# Altium schematic symbol library FPGA_Xilinx_Virtex6.SchLib: 28 symbols (part 9 of 15)
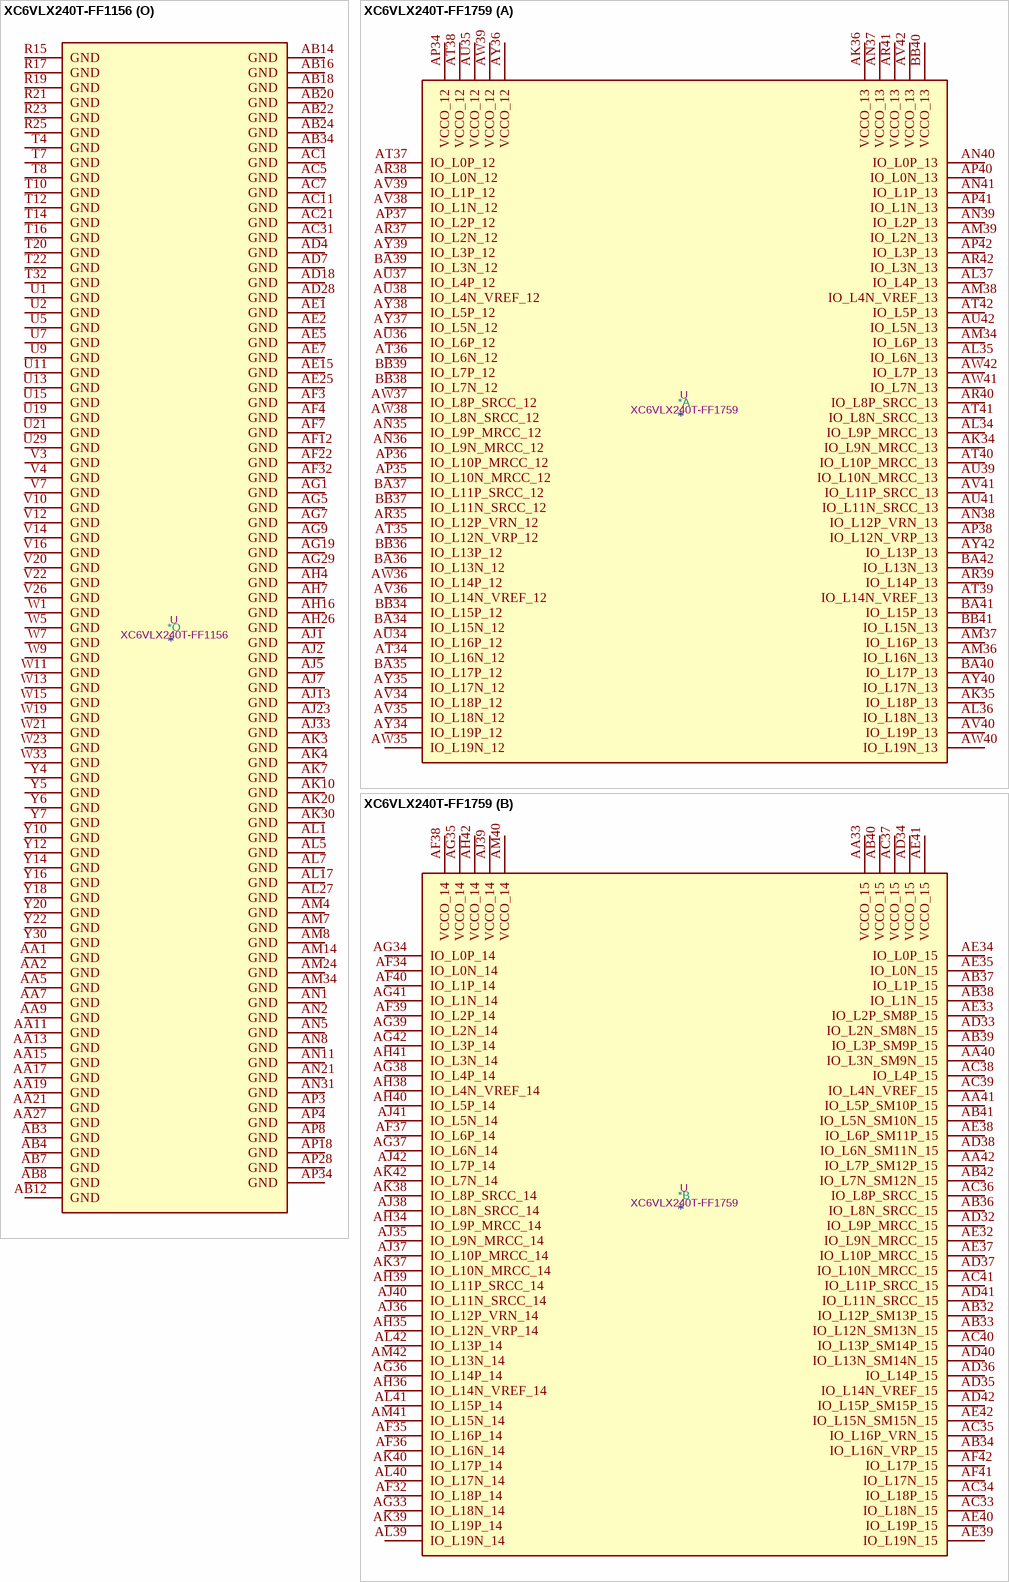
[diagram p109: symbols XC6VLX240T-FF1156 to XC6VLX240T-FF1759]

## XC6VLX240T-FF1156
designator *  value XC6VLX240T-FF1156  Reference: U
Virtex 6 LXT 240 XC6VLX240T-FF1156; ki_keywords: FPGA; Description_: Virtex 6 LXT 240 XC6VLX240T-FF1156
part A pins: AA25 IO_L6P_13, AA26 IO_L17P_13, AA28 IO_L7P_13, AA29 IO_L7N_13, AA30 IO_L1P_13, AA31 IO_L1N_13, AA32 VCCO_13, AA33 IO_L0N_13, AA34 IO_L0P_13, AB25 IO_L19P_13, AB26 IO_L17N_13, AB27 IO_L15P_13, AB28 IO_L13P_13, AB29 VCCO_13, AB30 IO_L3P_13, AB31 IO_L3N_13, AB32 IO_L12P_VRN_13, AB33 IO_L4N_VREF_13, AC25 IO_L19N_13, AC26 VCCO_13, AC27 IO_L15N_13, AC28 IO_L13N_13, AC29 IO_L11N_SRCC_13, AC30 IO_L9N_MRCC_13, AC32 IO_L12N_VRP_13, AC33 IO_L4P_13, AC34 IO_L2N_13, AD25 IO_L0P_12, AD26 IO_L0N_12, AD27 IO_L1N_12, AD29 IO_L11P_SRCC_13, AD30 IO_L9P_MRCC_13, AD31 IO_L5N_13, AD32 IO_L14P_13, AD33 VCCO_13, AD34 IO_L2P_13, AE26 IO_L11N_SRCC_12, AE27 IO_L1P_12, AE28 IO_L3P_12, AE29 IO_L3N_12, AE30 VCCO_13, AE31 IO_L5P_13, AE32 IO_L14N_VREF_13, AE33 IO_L10P_MRCC_13, AE34 IO_L8P_SRCC_13, AF26 IO_L11P_SRCC_12, AF27 VCCO_12, AF28 IO_L5P_12, AF29 IO_L5N_12, AF30 IO_L10P_MRCC_12, AF31 IO_L18N_13, AF33 IO_L10N_MRCC_13, AF34 IO_L8N_SRCC_13, AG27 IO_L9P_MRCC_12, AG28 IO_L9N_MRCC_12, AG30 IO_L10N_MRCC_12, AG31 IO_L18P_13, AG32 IO_L16N_13, AG33 IO_L16P_13, AG34 VCCO_12, AH29 IO_L7P_12, AH30 IO_L7N_12, AH31 VCCO_12, AH32 IO_L2N_12, AH33 IO_L2P_12, AH34 IO_L4N_VREF_12, AJ29 IO_L13P_12, AJ30 IO_L13N_12, AJ31 IO_L12P_VRN_12, AJ32 IO_L12N_VRP_12, AJ34 IO_L4P_12, AK31 IO_L15N_12, AK32 IO_L14N_VREF_12, AK33 IO_L14P_12, AK34 IO_L6N_12, AL30 IO_L19P_12, AL31 IO_L15P_12, AL32 VCCO_12, AL33 IO_L16N_12, AL34 IO_L6P_12, AM31 IO_L19N_12, AM32 IO_L17N_12, AM33 IO_L16P_12, AN32 IO_L17P_12, AN33 IO_L8P_SRCC_12, AN34 IO_L8N_SRCC_12, AP32 IO_L18P_12, AP33 IO_L18N_12, Y26 IO_L6N_13
part B pins: K31 IO_L2N_SM8N_15, K32 IO_L2P_SM8P_15, K34 IO_L16P_VRN_15, L28 IO_L7P_SM12P_15, L29 IO_L11P_SRCC_15, L30 IO_L11N_SRCC_15, L31 IO_L0N_15, L32 VCCO_15, L33 IO_L6P_SM11P_15, L34 IO_L16N_VRP_15, M25 IO_L1N_15, M26 IO_L3P_SM9P_15, M27 IO_L3N_SM9N_15, M28 IO_L7N_SM12N_15, M29 VCCO_15, M30 IO_L17P_15, M31 IO_L0P_15, M32 IO_L6N_SM11N_15, M33 IO_L10N_MRCC_15, N25 IO_L1P_15, N26 VCCO_15, N27 IO_L5P_SM10P_15, N28 IO_L9P_MRCC_15, N29 IO_L9N_MRCC_15, N30 IO_L17N_15, N32 IO_L8P_SRCC_15, N33 IO_L10P_MRCC_15, N34 IO_L18P_15, P25 IO_L12P_SM13P_15, P26 IO_L12N_SM13N_15, P27 IO_L5N_SM10N_15, P29 IO_L19P_15, P30 IO_L4N_VREF_15, P31 IO_L4P_15, P32 IO_L8N_SRCC_15, P33 VCCO_15, P34 IO_L18N_15, R26 IO_L15P_SM15P_15, R27 IO_L13N_SM14N_15, R28 IO_L13P_SM14P_15, R29 IO_L19N_15, R30 VCCO_15, R31 IO_L14P_15, R32 IO_L14N_VREF_15, R33 IO_L2P_14, R34 IO_L2N_14, T25 IO_L0N_14, T26 IO_L15N_SM15N_15, T27 VCCO_14, T28 IO_L1P_14, T29 IO_L1N_14, T30 IO_L3P_14, T31 IO_L3N_14, T33 IO_L4P_14, T34 IO_L4N_VREF_14, U25 IO_L0P_14, U26 IO_L5P_14, U27 IO_L5N_14, U28 IO_L7P_14, U30 IO_L8N_SRCC_14, U31 IO_L8P_SRCC_14, U32 IO_L6N_14, U33 IO_L6P_14, U34 VCCO_14, V25 IO_L18N_14, V27 IO_L11N_SRCC_14, V28 IO_L11P_SRCC_14, V29 IO_L7N_14, V30 IO_L9P_MRCC_14, V31 VCCO_14, V32 IO_L12P_VRN_14, V33 IO_L12N_VRP_14, V34 IO_L10P_MRCC_14, W25 IO_L18P_14, W26 IO_L19N_14, W27 IO_L19P_14, W28 VCCO_14, W29 IO_L15P_14, W30 IO_L9N_MRCC_14, W31 IO_L16P_14, W32 IO_L16N_14, W34 IO_L10N_MRCC_14, Y27 IO_L17N_14, Y28 IO_L17P_14, Y29 IO_L15N_14, Y31 IO_L13N_14, Y32 IO_L13P_14, Y33 IO_L14P_14, Y34 IO_L14N_VREF_14
part C pins: A32 VCCO_16, A33 IO_L4P_16, AC19 IO_L14P_22, AC20 IO_L6P_22, AD19 IO_L14N_VREF_22, AD20 IO_L6N_22, AD21 IO_L0N_22, AE19 IO_L8N_SRCC_22, AE20 VCCO_22, AE21 IO_L0P_22, AF19 IO_L8P_SRCC_22, AF20 IO_L11P_SRCC_22, AF21 IO_L11N_SRCC_22, AG20 IO_L18P_22, AG21 IO_L18N_22, AG22 IO_L2P_22, AH20 IO_L12N_VRP_22, AH21 VCCO_22, AH22 IO_L2N_22, AJ20 IO_L12P_VRN_22, AJ21 IO_L16N_22, AJ22 IO_L4N_VREF_22, AK19 IO_L10P_MRCC_22, AK21 IO_L16P_22, AK22 IO_L4P_22, AL18 IO_L1N_22, AL19 IO_L10N_MRCC_22, AL20 IO_L7N_22, AL21 IO_L13N_22, AL22 VCCO_22, AL23 IO_L15N_22, AM18 IO_L1P_22, AM19 VCCO_22, AM20 IO_L7P_22, AM21 IO_L13P_22, AM22 IO_L17P_22, AM23 IO_L15P_22, AN18 IO_L3N_22, AN19 IO_L5P_22, AN20 IO_L5N_22, AN22 IO_L17N_22, AN23 IO_L19N_22, AP19 IO_L3P_22, AP20 IO_L9P_MRCC_22, AP21 IO_L9N_MRCC_22, AP22 IO_L19P_22, AP23 VCCO_22, B32 IO_L0N_16, B33 IO_L4N_VREF_16, B34 IO_L6N_16, C32 IO_L0P_16, C33 IO_L6P_16, C34 IO_L8N_SRCC_16, D31 IO_L15P_16, D32 IO_L15N_16, D33 VCCO_16, D34 IO_L8P_SRCC_16, E31 IO_L11N_SRCC_16, E32 IO_L2P_16, E33 IO_L2N_16, E34 IO_L12P_VRN_16, F30 IO_L3P_16, F31 IO_L11P_SRCC_16, F33 IO_L10P_MRCC_16, F34 IO_L12N_VRP_16, G30 IO_L3N_16, G31 IO_L5P_16, G32 IO_L17P_16, G33 IO_L10N_MRCC_16, G34 VCCO_16, H30 IO_L5N_16, H31 VCCO_16, H32 IO_L17N_16, H33 IO_L14N_VREF_16, H34 IO_L14P_16, J26 IO_L1P_16, J27 IO_L1N_16, J28 VCCO_16, J29 IO_L7N_16, J30 IO_L13P_16, J31 IO_L19P_16, J32 IO_L19N_16, J34 IO_L16N_16, K25 VCCO_16, K26 IO_L9P_MRCC_16, K27 IO_L9N_MRCC_16, K28 IO_L7P_16, K29 IO_L13N_16, K33 IO_L16P_16, L25 IO_L18P_16, L26 IO_L18N_16
part D pins: AA23 IO_L16P_RS0_24, AA24 IO_L14N_VREF_FOE_B_MOSI_24, AB23 IO_L16N_CSO_B_24, AC22 IO_L19P_24, AC23 IO_L18P_24, AC24 IO_L18N_24, AD22 IO_L19N_24, AD23 VCCO_24, AD24 IO_L11P_SRCC_24, AE22 IO_L17N_VRP_24, AE23 IO_L17P_VRN_24, AE24 IO_L11N_SRCC_24, AF23 IO_L15P_FWE_B_24, AF24 IO_L13N_D0_FS0_24, AF25 IO_L13P_D1_FS1_24, AG23 IO_L15N_RS1_24, AG24 VCCO_24, AG25 IO_L2P_23, AG26 IO_L2N_23, AH23 IO_L11P_SRCC_23, AH24 IO_L11N_SRCC_23, AH25 IO_L8P_SRCC_23, AH27 IO_L0P_23, AH28 IO_L0N_23, AJ24 IO_L14P_23, AJ25 IO_L8N_SRCC_23, AJ26 IO_L12N_VRP_23, AJ27 IO_L10N_MRCC_23, AJ28 VCCO_23, AK23 IO_L18P_23, AK24 IO_L14N_VREF_23, AK25 VCCO_23, AK26 IO_L12P_VRN_23, AK27 IO_L10P_MRCC_23, AK28 IO_L6N_23, AK29 IO_L4N_VREF_23, AL24 IO_L18N_23, AL25 IO_L16N_23, AL26 IO_L13P_23, AL28 IO_L6P_23, AL29 IO_L4P_23, AM25 IO_L16P_23, AM26 IO_L13N_23, AM27 IO_L9N_MRCC_23, AM28 IO_L7N_23, AM29 VCCO_23, AM30 IO_L1N_23, AN24 IO_L17N_23, AN25 IO_L17P_23, AN26 VCCO_23, AN27 IO_L9P_MRCC_23, AN28 IO_L7P_23, AN29 IO_L5P_23, AN30 IO_L1P_23, AP24 IO_L19N_23, AP25 IO_L19P_23, AP26 IO_L15N_23, AP27 IO_L15P_23, AP29 IO_L5N_23, AP30 IO_L3P_23, AP31 IO_L3N_23, F23 IO_L3N_D12_24, F24 IO_L3P_D13_24, G23 IO_L5N_D8_24, G24 VCCO_24, H23 IO_L5P_D9_24, H24 IO_L7N_D4_24, H25 IO_L7P_D5_24, J24 IO_L9N_MRCC_24, J25 IO_L9P_MRCC_24, K23 IO_L1N_GC_24, K24 IO_L1P_GC_24, L22 VCCO_24, L23 IO_L0P_GC_24, L24 IO_L2N_D14_24, M22 IO_L0N_GC_24, M23 IO_L2P_D15_24, N23 IO_L4P_D11_24, N24 IO_L4N_VREF_D10_24, P24 IO_L6N_D6_24, R24 IO_L6P_D7_24, T23 IO_L8N_SRCC_24, T24 IO_L8P_SRCC_24, U23 IO_L10P_MRCC_24, U24 VCCO_24, V23 IO_L10N_MRCC_24, V24 IO_L12P_D3_24, W24 IO_L12N_D2_FS2_24, Y24 IO_L14P_FCS_B_24, Y25 VCCO_24
part E pins: A18 IO_L15P_26, A19 IO_L15N_26, A20 IO_L7P_26, A21 IO_L7N_26, A22 VCCO_26, A23 IO_L1P_26, A24 IO_L1N_26, A25 IO_L3N_25, A26 IO_L5N_25, A28 IO_L13P_25, A29 IO_L13N_25, A30 IO_L15P_25, A31 IO_L19N_GC_25, B18 IO_L17P_26, B19 VCCO_26, B20 IO_L9P_MRCC_26, B21 IO_L5P_26, B22 IO_L5N_26, B23 IO_L3P_26, B25 IO_L3P_25, B26 IO_L5P_25, B27 IO_L7P_25, B28 IO_L9N_MRCC_25, B29 VCCO_25, B30 IO_L15N_25, B31 IO_L19P_GC_25, C18 IO_L17N_26, C19 IO_L9N_MRCC_26, C20 IO_L0P_26, C22 IO_L19P_26, C23 IO_L3N_26, C24 IO_L1P_25, C25 IO_L1N_25, C26 VCCO_25, C27 IO_L7N_25, C28 IO_L9P_MRCC_25, C29 IO_L10P_MRCC_25, C30 IO_L17P_25, D19 IO_L13N_26, D20 IO_L0N_26, D21 IO_L12P_VRN_26, D22 IO_L19N_26, D23 VCCO_26, D24 IO_L8P_SRCC_25, D25 IO_L0P_25, D26 IO_L0N_25, D27 IO_L4P_25, D29 IO_L10N_MRCC_25, D30 IO_L17N_25, E19 IO_L13P_26, E20 VCCO_26, E21 IO_L12N_VRP_26, E22 IO_L6P_26, E23 IO_L6N_26, E24 IO_L8N_SRCC_25, E26 IO_L2P_25, E27 IO_L4N_VREF_25, E28 IO_L14N_VREF_25, E29 IO_L16P_VRN_25, E30 VCCO_25, F19 IO_L8P_SRCC_26, F20 IO_L8N_SRCC_26, F21 IO_L10P_MRCC_26, F25 IO_L11P_SRCC_25, F26 IO_L2N_25, F27 VCCO_25, F28 IO_L14P_25, F29 IO_L16N_VRP_25, G20 IO_L10N_MRCC_26, G21 IO_L2P_26, G22 IO_L2N_26, G25 IO_L11N_SRCC_25, G26 IO_L6P_25, G27 IO_L6N_25, G28 IO_L12N_25, H19 IO_L11P_SRCC_26, H20 IO_L11N_SRCC_26, H21 VCCO_26, H22 IO_L14P_26, H27 IO_L12P_25, H28 IO_L18P_GC_25, H29 IO_L18N_GC_25, J20 IO_L4P_26, J21 IO_L4N_VREF_26, J22 IO_L14N_VREF_26, K21 IO_L16P_26, K22 IO_L16N_26, L20 IO_L18P_26, L21 IO_L18N_26
part F pins: AC12 IO_L9N_MRCC_33, AC13 IO_L9P_MRCC_33, AC14 IO_L2N_33, AC15 IO_L9P_MRCC_32, AC16 VCCO_32, AC17 IO_L11N_SRCC_32, AC18 IO_L11P_SRCC_32, AD11 IO_L10N_MRCC_33, AD12 IO_L10P_MRCC_33, AD13 VCCO_33, AD14 IO_L2P_33, AD15 IO_L9N_MRCC_32, AD16 IO_L10N_MRCC_32, AD17 IO_L16P_32, AE11 IO_L4N_VREF_33, AE12 IO_L0N_33, AE13 IO_L0P_33, AE14 IO_L14P_33, AE16 IO_L10P_MRCC_32, AE17 IO_L16N_32, AE18 IO_L18P_32, AF11 IO_L4P_33, AF13 IO_L12P_VRN_33, AF14 IO_L14N_VREF_33, AF15 IO_L0N_32, AF16 IO_L4N_VREF_32, AF17 VCCO_32, AF18 IO_L18N_32, AG10 IO_L6N_33, AG11 IO_L6P_33, AG12 IO_L16P_33, AG13 IO_L12N_VRP_33, AG14 VCCO_33, AG15 IO_L0P_32, AG16 IO_L4P_32, AG17 IO_L8N_SRCC_32, AG18 IO_L12N_VRP_32, AH10 IO_L8N_SRCC_33, AH11 VCCO_33, AH12 IO_L16N_33, AH13 IO_L18P_33, AH14 IO_L18N_33, AH15 IO_L2N_32, AH17 IO_L8P_SRCC_32, AH18 IO_L12P_VRN_32, AH19 IO_L14N_VREF_32, AJ10 IO_L8P_SRCC_33, AJ11 IO_L1P_33, AJ12 IO_L3N_33, AJ14 IO_L1N_32, AJ15 IO_L2P_32, AJ16 IO_L6N_32, AJ17 IO_L6P_32, AJ18 VCCO_32, AJ19 IO_L14P_32, AK11 IO_L1N_33, AK12 IO_L3P_33, AK13 IO_L17P_33, AK14 IO_L1P_32, AK15 VCCO_32, AK16 IO_L19N_32, AK17 IO_L17N_32, AK18 IO_L17P_32, AL10 IO_L5N_33, AL11 IO_L7P_33, AL12 VCCO_33, AL13 IO_L17N_33, AL14 IO_L3N_32, AL15 IO_L3P_32, AL16 IO_L19P_32, AM10 IO_L5P_33, AM11 IO_L7N_33, AM12 IO_L13P_33, AM13 IO_L15N_33, AM15 IO_L5N_32, AM16 IO_L15N_32, AM17 IO_L15P_32, AN12 IO_L13N_33, AN13 IO_L15P_33, AN14 IO_L19N_33, AN15 IO_L5P_32, AN16 VCCO_32, AN17 IO_L13P_32, AP11 IO_L11P_SRCC_33, AP12 IO_L11N_SRCC_33, AP13 VCCO_33, AP14 IO_L19P_33, AP15 IO_L7N_32, AP16 IO_L7P_32, AP17 IO_L13N_32
part G pins: A8 IO_L5N_A08_D24_34, A9 IO_L5P_A09_D25_34, A10 IO_L1P_GC_34, A11 IO_L13P_SM6P_35, A12 VCCO_35, A13 IO_L3P_SM1P_35, A14 IO_L3N_SM1N_35, AB10 IO_L10N_MRCC_34, AC9 IO_L12N_A02_D18_34, AC10 IO_L10P_MRCC_34, AD9 IO_L14P_A25_34, AD10 IO_L12P_A03_D19_34, AE9 IO_L14N_VREF_A24_34, AE10 VCCO_34, AF9 IO_L16P_A21_34, AF10 IO_L16N_A20_34, AG8 IO_L18P_A17_34, AH8 IO_L18N_A16_34, AH9 IO_L11P_SRCC_34, AJ8 VCCO_34, AJ9 IO_L11N_SRCC_34, AK8 IO_L13P_A01_D17_34, AK9 IO_L15P_A23_34, AL8 IO_L13N_A00_D16_34, AL9 IO_L15N_A22_34, AM9 VCCO_34, AN9 IO_L17P_A19_34, AN10 IO_L19P_VRN_34, AP9 IO_L17N_A18_34, AP10 IO_L19N_VRP_34, B8 IO_L7P_A05_D21_34, B9 VCCO_34, B10 IO_L1N_GC_34, B11 IO_L13N_SM6N_35, B12 IO_L7P_SM4P_35, B13 IO_L7N_SM4N_35, C8 IO_L7N_A04_D20_34, C9 IO_L4P_A11_D27_34, C10 IO_L3P_A13_D29_34, C12 IO_L11N_SRCC_35, C13 IO_L11P_SRCC_35, C14 IO_L1N_35, D9 IO_L4N_VREF_A10_D26_34, D10 IO_L3N_A12_D28_34, D11 IO_L19P_GC_35, D12 IO_L17P_35, D13 VCCO_35, D14 IO_L1P_35, E8 IO_L6P_A07_D23_34, E9 IO_L6N_A06_D22_34, E10 VCCO_34, E11 IO_L19N_GC_35, E12 IO_L17N_35, E13 IO_L15P_SM7P_35, E14 IO_L5N_SM2N_35, F9 IO_L2P_A15_D31_34, F10 IO_L2N_A14_D30_34, F11 IO_L2N_SM0N_35, F13 IO_L15N_SM7N_35, F14 IO_L5P_SM2P_35, G10 IO_L6N_SM3N_35, G11 IO_L2P_SM0P_35, G12 IO_L4P_35, G13 IO_L0P_35, G14 VCCO_35, H9 IO_L0N_GC_34, H10 IO_L6P_SM3P_35, H11 VCCO_35, H12 IO_L12P_SM5P_35, H13 IO_L4N_VREF_35, H14 IO_L0N_35, J9 IO_L0P_GC_34, J10 IO_L14N_VREF_35, J11 IO_L14P_35, J12 IO_L12N_SM5N_35, J14 IO_L8N_SRCC_35, K9 IO_L8N_SRCC_34, K11 IO_L16P_VRN_35, K12 IO_L18N_GC_35, K13 IO_L18P_GC_35, K14 IO_L8P_SRCC_35, L9 IO_L8P_SRCC_34, L10 IO_L9P_MRCC_34, L11 IO_L16N_VRP_35, L12 VCCO_35, L13 IO_L9P_MRCC_35, M9 VCCO_34, M10 IO_L9N_MRCC_34, M11 IO_L10N_MRCC_35, M12 IO_L10P_MRCC_35, M13 IO_L9N_MRCC_35
part H pins: A15 IO_L15P_36, A16 IO_L11P_SRCC_36, B15 IO_L15N_36, B16 IO_L11N_SRCC_36, B17 IO_L5N_36, C15 IO_L19N_36, C16 VCCO_36, C17 IO_L5P_36, D15 IO_L19P_36, D16 IO_L13N_36, D17 IO_L1N_36, E16 IO_L13P_36, E17 IO_L0N_36, E18 IO_L1P_36, F15 IO_L16N_36, F16 IO_L12P_VRN_36, F17 VCCO_36, F18 IO_L0P_36, G15 IO_L16P_36, G16 IO_L12N_VRP_36, G17 IO_L3N_36, G18 IO_L8P_SRCC_36, H15 IO_L18P_36, H17 IO_L3P_36, H18 IO_L8N_SRCC_36, J15 IO_L18N_36, J16 IO_L14N_VREF_36, J17 IO_L14P_36, J18 VCCO_36, J19 IO_L6N_36, K15 VCCO_36, K16 IO_L9P_MRCC_36, K17 IO_L2N_36, K18 IO_L2P_36, K19 IO_L6P_36, L14 IO_L10N_MRCC_36, L15 IO_L10P_MRCC_36, L16 IO_L9N_MRCC_36, L18 IO_L4N_VREF_36, L19 IO_L4P_36, M15 IO_L17N_36, M16 IO_L17P_36, M17 IO_L7N_36, M18 IO_L7P_36
part I pins: AB1 MGTTXP3_113, AB2 MGTTXN3_113, AB5 MGTREFCLK1N_113, AB6 MGTREFCLK1P_113, AC3 MGTRXP3_113, AC4 MGTRXN3_113, AD1 MGTTXP2_113, AD2 MGTTXN2_113, AD5 MGTREFCLK0N_113, AD6 MGTREFCLK0P_113, AE3 MGTRXP2_113, AE4 MGTRXN2_113, AF1 MGTTXP1_113, AF2 MGTTXN1_113, AF5 MGTRXP1_113, AF6 MGTRXN1_113, AG3 MGTRXP0_113, AG4 MGTRXN0_113, AH1 MGTTXP0_113, AH2 MGTTXN0_113, AH5 MGTREFCLK1N_112, AH6 MGTREFCLK1P_112, AJ3 MGTRXP3_112, AJ4 MGTRXN3_112, AK1 MGTTXP3_112, AK2 MGTTXN3_112, AK5 MGTREFCLK0N_112, AK6 MGTREFCLK0P_112, AL3 MGTRXP2_112, AL4 MGTRXN2_112, AM1 MGTTXP2_112, AM2 MGTTXN2_112, AM5 MGTRXP1_112, AM6 MGTRXN1_112, AN3 MGTTXP1_112, AN4 MGTTXN1_112, AP1 MGTTXP0_112, AP2 MGTTXN0_112, AP5 MGTRXP0_112, AP6 MGTRXN0_112
part J pins: AA3 MGTRXP0_114, AA4 MGTRXN0_114, F1 MGTTXP3_115, F2 MGTTXN3_115, H1 MGTTXP2_115, H2 MGTTXN2_115, J3 MGTRXP3_115, J4 MGTRXN3_115, K1 MGTTXP1_115, K2 MGTTXN1_115, K5 MGTRXP2_115, K6 MGTRXN2_115, L3 MGTRXP1_115, L4 MGTRXN1_115, M1 MGTTXP0_115, M2 MGTTXN0_115, M5 MGTREFCLK1N_115, M6 MGTREFCLK1P_115, N3 MGTRXP0_115, N4 MGTRXN0_115, P1 MGTTXP3_114, P2 MGTTXN3_114, P5 MGTREFCLK0N_115, P6 MGTREFCLK0P_115, R3 MGTRXP3_114, R4 MGTRXN3_114, T1 MGTTXP2_114, T2 MGTTXN2_114, T5 MGTREFCLK1N_114, T6 MGTREFCLK1P_114, U3 MGTRXP2_114, U4 MGTRXN2_114, V1 MGTTXP1_114, V2 MGTTXN1_114, V5 MGTREFCLK0N_114, V6 MGTREFCLK0P_114, W3 MGTRXP1_114, W4 MGTRXN1_114, Y1 MGTTXP0_114, Y2 MGTTXN0_114
part K pins: A3 MGTTXP3_116, A4 MGTTXN3_116, B1 MGTTXP2_116, B2 MGTTXN2_116, B5 MGTRXP3_116, B6 MGTRXN3_116, C3 MGTTXP1_116, C4 MGTTXN1_116, D1 MGTTXP0_116, D2 MGTTXN0_116, D5 MGTRXP2_116, D6 MGTRXN2_116, E3 MGTRXP1_116, E4 MGTRXN1_116, F5 MGTREFCLK1N_116, F6 MGTREFCLK1P_116, G3 MGTRXP0_116, G4 MGTRXN0_116, H5 MGTREFCLK0N_116, H6 MGTREFCLK0P_116
part L pins: AA6 MGTAVCC_S, AC2 MGTAVTT_S, AC6 MGTAVCC_S, AD3 MGTAVTT_S, AE6 MGTAVCC_S, AG2 MGTAVTT_S, AG6 MGTAVCC_S, AH3 MGTAVTT_S, AJ6 MGTAVCC_S, AL2 MGTAVTT_S, AL6 MGTAVCC_S, AM3 MGTAVTT_S, AN6 MGTAVCC_S, AN7 MGTRREF_115, AP7 MGTAVTTRCAL_115, C2 MGTAVTT_N, C6 MGTAVCC_N, D3 MGTAVTT_N, E6 MGTAVCC_N, G2 MGTAVTT_N, G6 MGTAVCC_N, H3 MGTAVTT_N, J6 MGTAVCC_N, L2 MGTAVTT_N, L6 MGTAVCC_N, M3 MGTAVTT_N, N6 MGTAVCC_N, R2 MGTAVTT_S, R6 MGTAVCC_S, T3 MGTAVTT_S, U6 MGTAVCC_S, W2 MGTAVTT_S, W6 MGTAVCC_S, Y3 MGTAVTT_S
part M pins: AA8 DOUT_BUSY_0, AB9 VCCO_0, AC8 TDO_0, AD8 TDI_0, AE8 TCK_0, AF8 TMS_0, F8 CSI_B_0, G8 RDWR_B_0, H8 DIN_0, K8 CCLK_0, L8 PROGRAM_B_0, M8 HSWAPEN_0, P8 INIT_B_0, R8 DONE_0, U8 M0_0, U17 VREFN_0, U18 VP_0, V8 M2_0, V17 VN_0, V18 VREFP_0, W8 M1_0, W17 DXN_0, W18 DXP_0, Y9 VCCO_0
part N pins: A1 GND, A2 GND, A5 GND, A6 GND, A7 GND, A17 GND, A27 GND, A34 GND, AA10 VCCAUX, AA12 VCCINT, AA14 VCCINT, AA16 VCCINT, AA18 VCCINT, AA20 VCCINT, AA22 VCCAUX, AB11 VCCINT, AB13 VCCINT, AB15 VCCINT, AB17 VCCINT, AB19 VCCINT, AB21 VCCINT, B3 GND, B4 GND, B7 GND, B14 GND, B24 GND, C1 GND, C5 GND, C7 GND, C11 GND, C21 GND, C31 GND, D4 GND, D7 GND, D8 GND, D18 GND, D28 GND, E1 GND, E2 GND, E5 GND, E7 GND, E15 GND, E25 GND, F3 GND, F4 GND, F7 GND, F12 GND, F22 GND, F32 GND, G1 GND, G5 GND, G7 GND, G9 GND, G19 GND, G29 GND, H4 GND, H7 GND, H16 GND, H26 GND, J1 GND, J2 GND, J5 GND, J7 GND, J8 GND, J13 GND, J23 GND, J33 GND, K3 GND, K4 GND, K7 GND, K10 GND, K20 GND, K30 GND, L1 GND, L5 GND, L7 GND, L17 GND, L27 GND, M4 GND, M7 GND, M14 GND, M19 VCCINT, M20 GND, M21 VCCINT, M24 GND, M34 GND, N1 GND, N2 GND, N5 GND, N7 GND, N8 VBATT_0, N9 GND, N10 VCCAUX, N11 GND, N12 VCCINT, N13 GND, N14 VCCINT, N15 GND, N16 VCCINT, N17 GND, N18 VCCINT, N19 GND, N20 VCCINT, N21 GND, N22 VCCAUX, N31 GND, P3 GND, P4 GND, P7 GND, P9 VCCAUX, P10 GND, P11 VCCINT, P12 GND, P13 VCCINT, P14 GND, P15 VCCINT, P16 GND, P17 VCCINT, P18 GND, P19 VCCINT, P20 GND, P21 VCCINT, P22 GND, P23 VCCAUX, P28 GND, R1 GND, R5 GND, R7 GND, R9 GND, R10 VCCINT, R11 GND, R12 VCCINT, R13 GND, R14 VCCINT, R16 VCCINT, R18 VCCINT, R20 VCCINT, R22 VCCAUX, T9 VCCAUX, T11 VCCINT, T13 VCCINT, T15 VCCINT, T17 AVSS_0, T18 AVDD_0, T19 VCCINT, T21 VCCINT, U10 VCCINT, U12 VCCINT, U14 VCCINT, U16 VCCINT, U20 VCCINT, U22 VCCAUX, V9 VCCAUX, V11 VCCINT, V13 VCCINT, V15 VCCINT, V19 VCCINT, V21 VCCINT, W10 VCCAUX, W12 VCCINT, W14 VCCINT, W16 VCCINT, W20 VCCINT, W22 VCCAUX, Y8 VFS_0, Y11 VCCINT, Y13 VCCINT, Y15 VCCINT, Y17 VCCINT, Y19 VCCINT, Y21 VCCINT, Y23 VCCAUX
part O pins: AA1 GND, AA2 GND, AA5 GND, AA7 GND, AA9 GND, AA11 GND, AA13 GND, AA15 GND, AA17 GND, AA19 GND, AA21 GND, AA27 GND, AB3 GND, AB4 GND, AB7 GND, AB8 GND, AB12 GND, AB14 GND, AB16 GND, AB18 GND, AB20 GND, AB22 GND, AB24 GND, AB34 GND, AC1 GND, AC5 GND, AC7 GND, AC11 GND, AC21 GND, AC31 GND, AD4 GND, AD7 GND, AD18 GND, AD28 GND, AE1 GND, AE2 GND, AE5 GND, AE7 GND, AE15 GND, AE25 GND, AF3 GND, AF4 GND, AF7 GND, AF12 GND, AF22 GND, AF32 GND, AG1 GND, AG5 GND, AG7 GND, AG9 GND, AG19 GND, AG29 GND, AH4 GND, AH7 GND, AH16 GND, AH26 GND, AJ1 GND, AJ2 GND, AJ5 GND, AJ7 GND, AJ13 GND, AJ23 GND, AJ33 GND, AK3 GND, AK4 GND, AK7 GND, AK10 GND, AK20 GND, AK30 GND, AL1 GND, AL5 GND, AL7 GND, AL17 GND, AL27 GND, AM4 GND, AM7 GND, AM8 GND, AM14 GND, AM24 GND, AM34 GND, AN1 GND, AN2 GND, AN5 GND, AN8 GND, AN11 GND, AN21 GND, AN31 GND, AP3 GND, AP4 GND, AP8 GND, AP18 GND, AP28 GND, AP34 GND, R15 GND, R17 GND, R19 GND, R21 GND, R23 GND, R25 GND, T4 GND, T7 GND, T8 GND, T10 GND, T12 GND, T14 GND, T16 GND, T20 GND, T22 GND, T32 GND, U1 GND, U2 GND, U5 GND, U7 GND, U9 GND, U11 GND, U13 GND, U15 GND, U19 GND, U21 GND, U29 GND, V3 GND, V4 GND, V7 GND, V10 GND, V12 GND, V14 GND, V16 GND, V20 GND, V22 GND, V26 GND, W1 GND, W5 GND, W7 GND, W9 GND, W11 GND, W13 GND, W15 GND, W19 GND, W21 GND, W23 GND, W33 GND, Y4 GND, Y5 GND, Y6 GND, Y7 GND, Y10 GND, Y12 GND, Y14 GND, Y16 GND, Y18 GND, Y20 GND, Y22 GND, Y30 GND

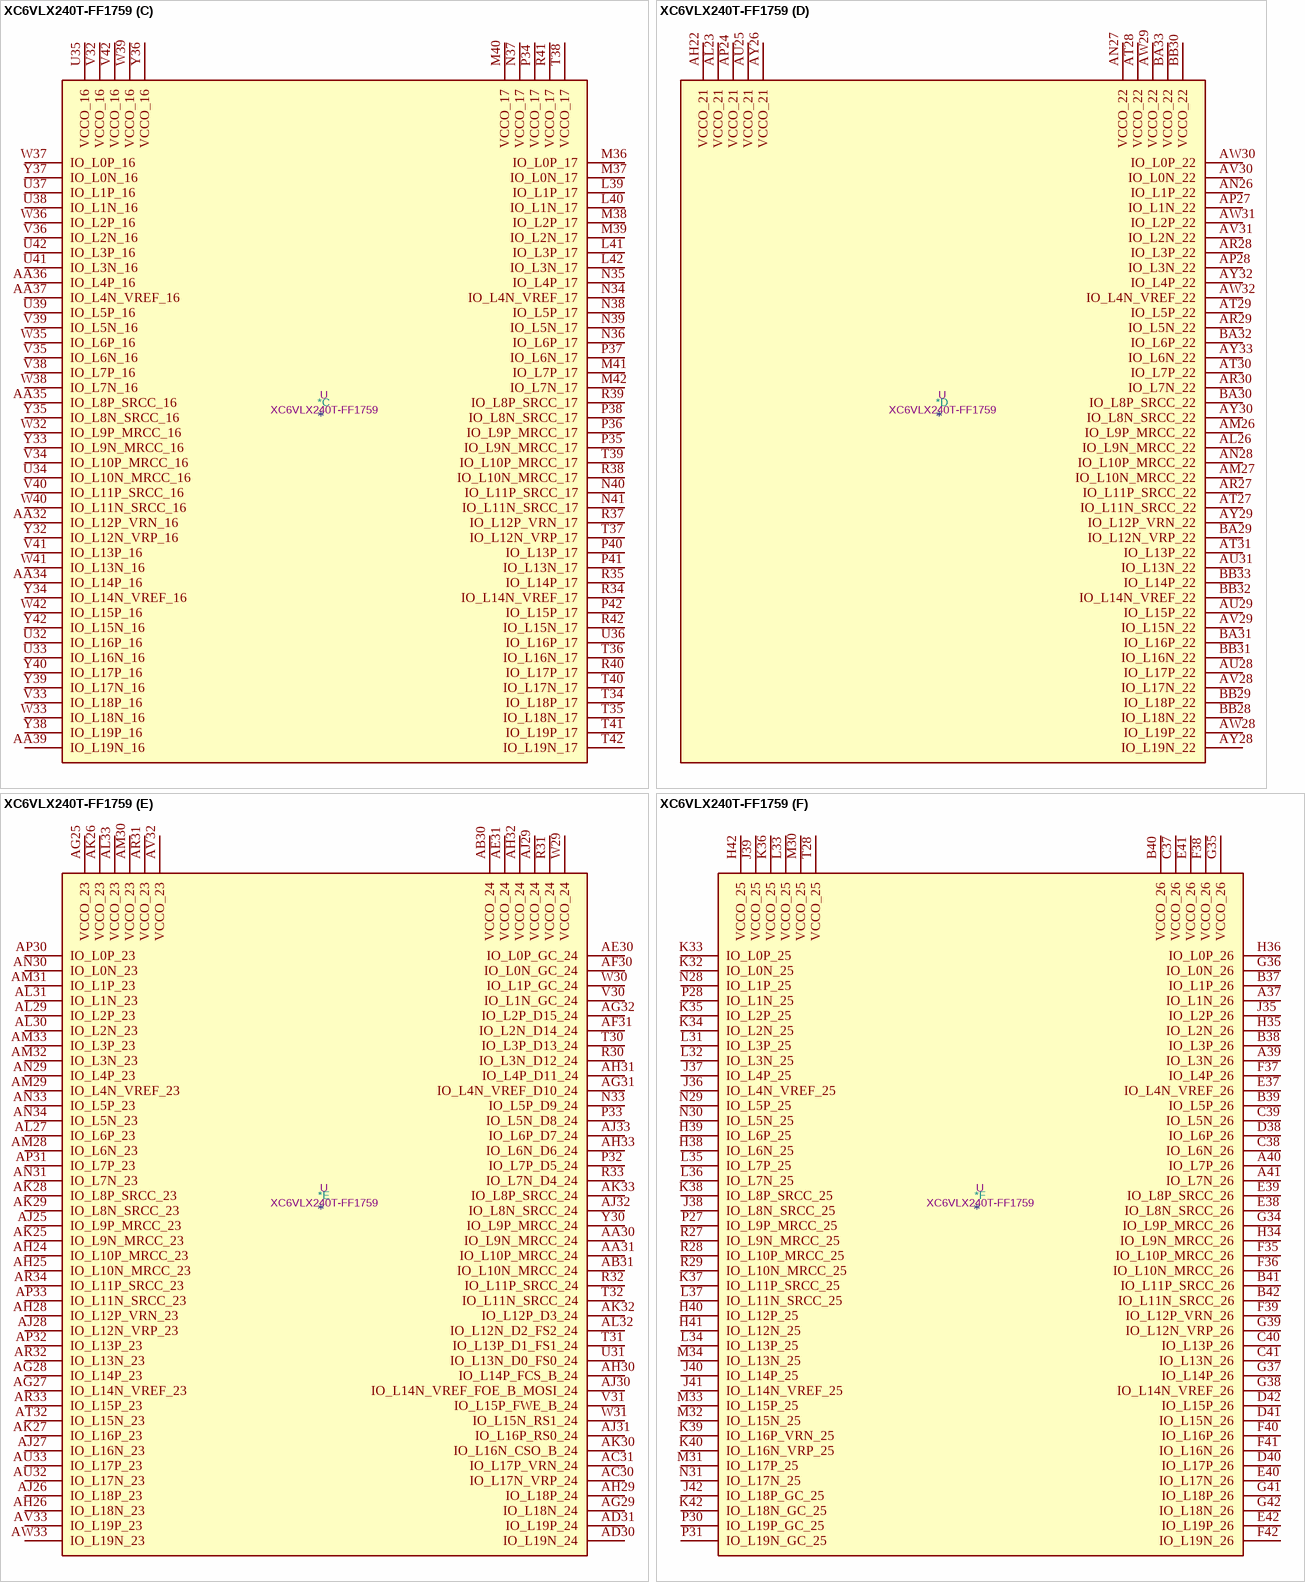
[diagram p60: symbol XC6VLX240T-FF1759]

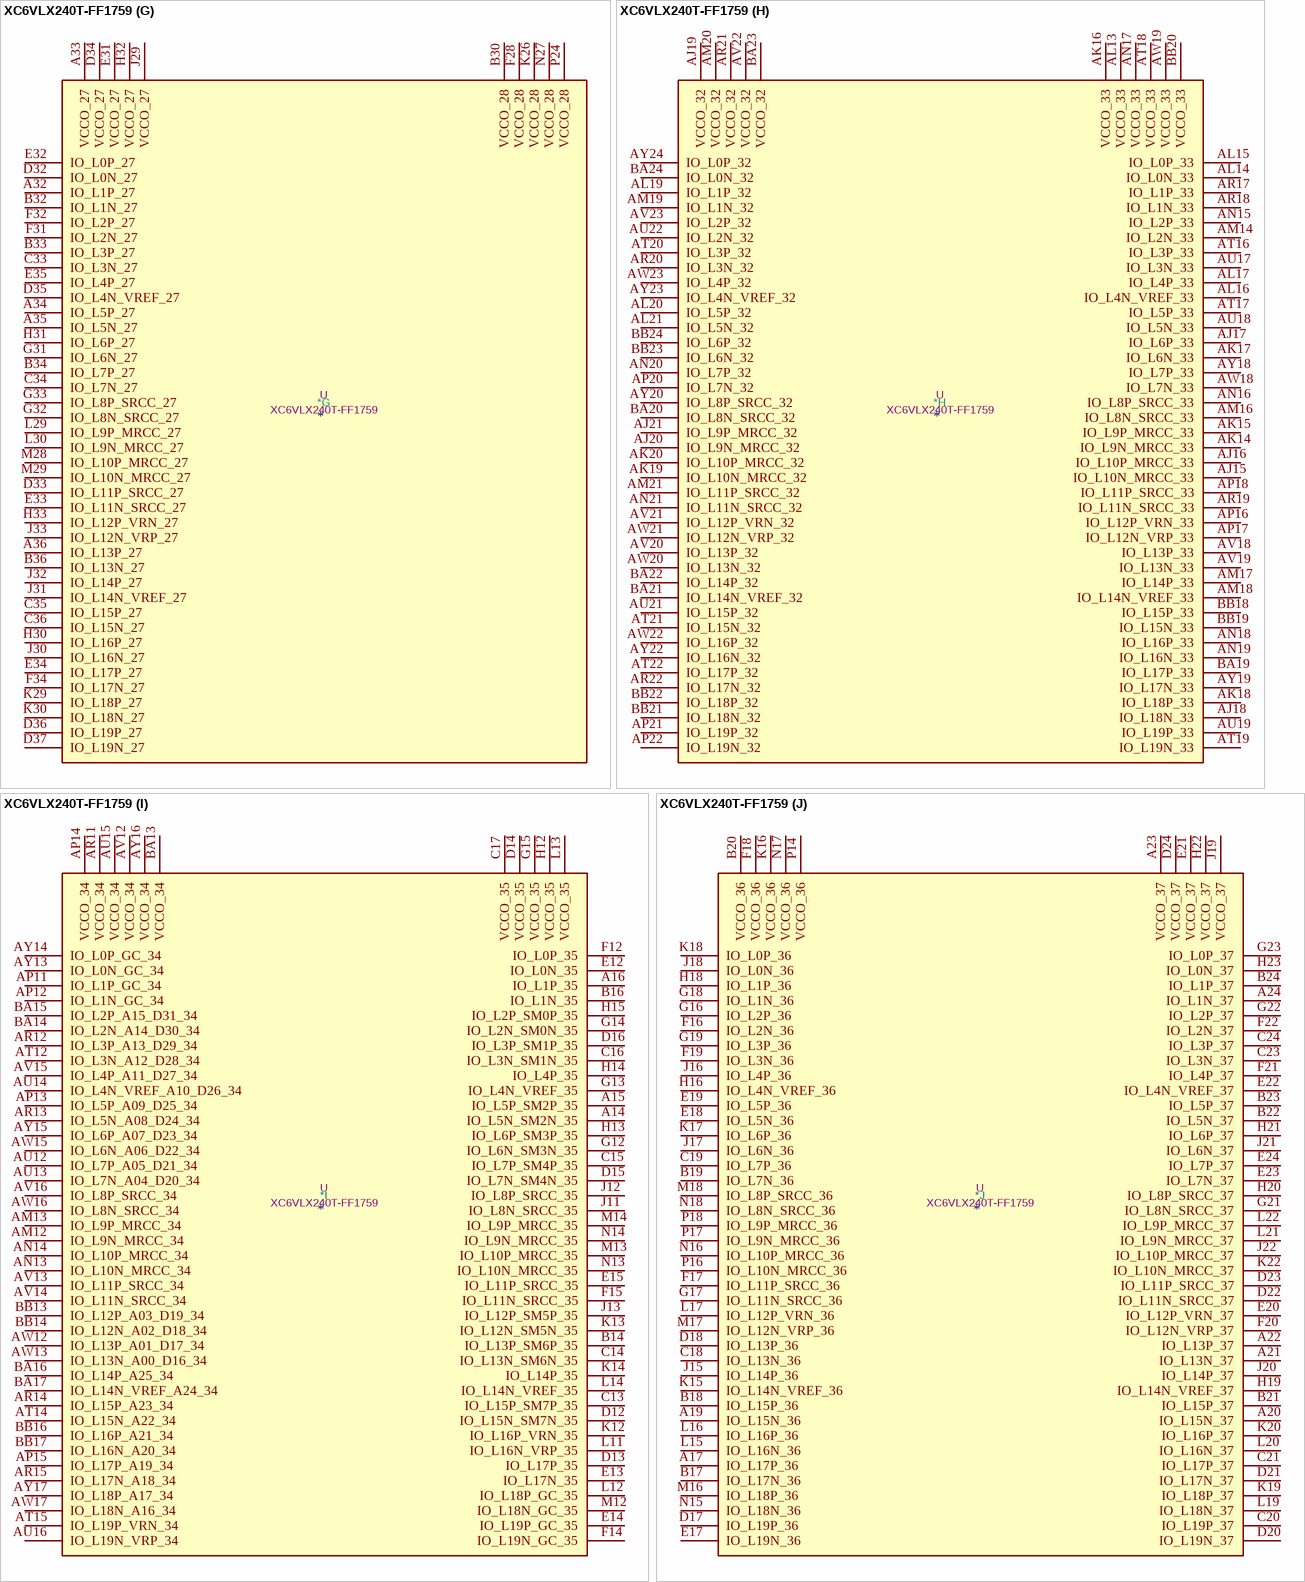
[diagram p61: symbol XC6VLX240T-FF1759]

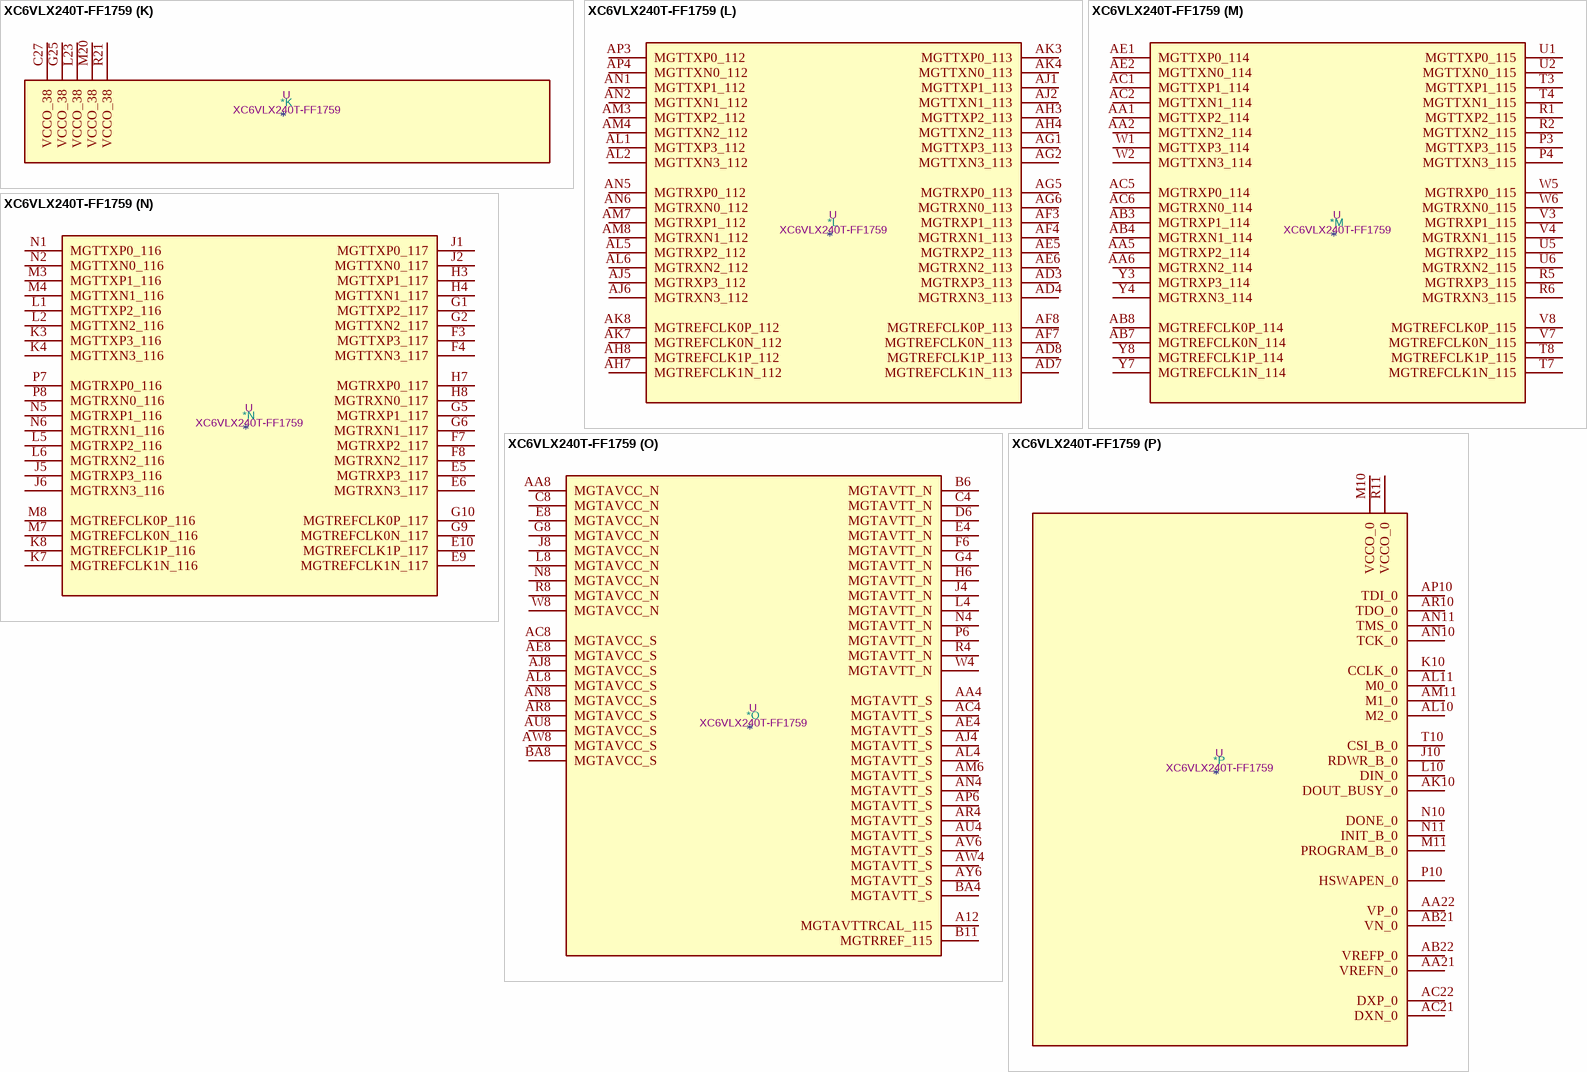
[diagram p62: symbol XC6VLX240T-FF1759]

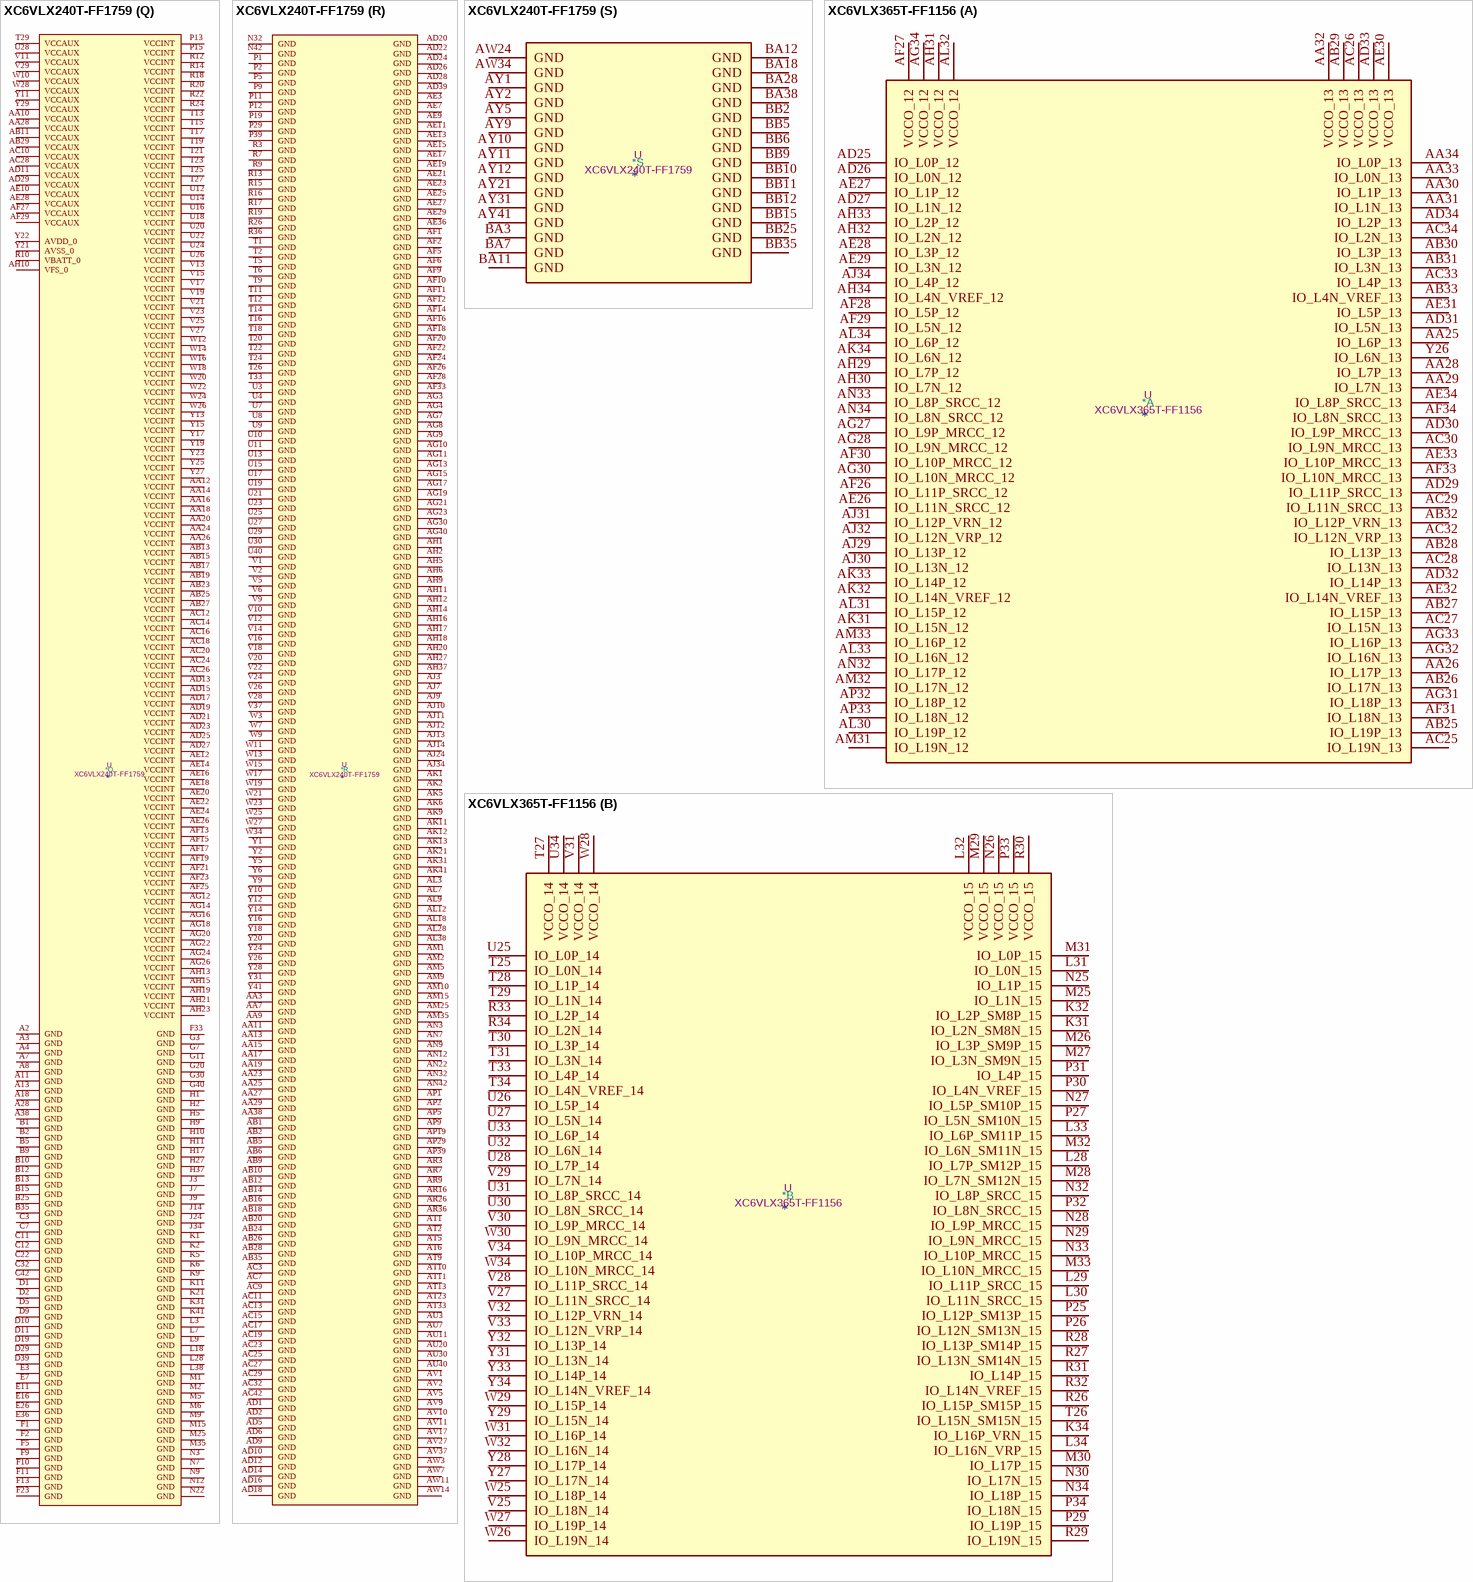
[diagram p63: symbols XC6VLX240T-FF1759 to XC6VLX365T-FF1156]

## XC6VLX240T-FF1759
designator *  value XC6VLX240T-FF1759  Reference: U
Virtex 6 LXT 240 XC6VLX240T-FF1759; ki_keywords: FPGA; Description_: Virtex 6 LXT 240 XC6VLX240T-FF1759
part A pins: AK34 IO_L9N_MRCC_13, AK35 IO_L18P_13, AK36 VCCO_13, AL34 IO_L9P_MRCC_13, AL35 IO_L6N_13, AL36 IO_L18N_13, AL37 IO_L4P_13, AM34 IO_L6P_13, AM36 IO_L16N_13, AM37 IO_L16P_13, AM38 IO_L4N_VREF_13, AM39 IO_L2N_13, AN35 IO_L9P_MRCC_12, AN36 IO_L9N_MRCC_12, AN37 VCCO_13, AN38 IO_L12P_VRN_13, AN39 IO_L2P_13, AN40 IO_L0P_13, AN41 IO_L1P_13, AP34 VCCO_12, AP35 IO_L10N_MRCC_12, AP36 IO_L10P_MRCC_12, AP37 IO_L2P_12, AP38 IO_L12N_VRP_13, AP40 IO_L0N_13, AP41 IO_L1N_13, AP42 IO_L3P_13, AR35 IO_L12P_VRN_12, AR37 IO_L2N_12, AR38 IO_L0N_12, AR39 IO_L14P_13, AR40 IO_L8P_SRCC_13, AR41 VCCO_13, AR42 IO_L3N_13, AT34 IO_L16N_12, AT35 IO_L12N_VRP_12, AT36 IO_L6N_12, AT37 IO_L0P_12, AT38 VCCO_12, AT39 IO_L14N_VREF_13, AT40 IO_L10P_MRCC_13, AT41 IO_L8N_SRCC_13, AT42 IO_L5P_13, AU34 IO_L16P_12, AU35 VCCO_12, AU36 IO_L6P_12, AU37 IO_L4P_12, AU38 IO_L4N_VREF_12, AU39 IO_L10N_MRCC_13, AU41 IO_L11N_SRCC_13, AU42 IO_L5N_13, AV34 IO_L18P_12, AV35 IO_L18N_12, AV36 IO_L14N_VREF_12, AV38 IO_L1N_12, AV39 IO_L1P_12, AV40 IO_L19P_13, AV41 IO_L11P_SRCC_13, AV42 VCCO_13, AW35 IO_L19N_12, AW36 IO_L14P_12, AW37 IO_L8P_SRCC_12, AW38 IO_L8N_SRCC_12, AW39 VCCO_12, AW40 IO_L19N_13, AW41 IO_L7N_13, AW42 IO_L7P_13, AY34 IO_L19P_12, AY35 IO_L17N_12, AY36 VCCO_12, AY37 IO_L5N_12, AY38 IO_L5P_12, AY39 IO_L3P_12, AY40 IO_L17N_13, AY42 IO_L13P_13, BA34 IO_L15N_12, BA35 IO_L17P_12, BA36 IO_L13N_12, BA37 IO_L11P_SRCC_12, BA39 IO_L3N_12, BA40 IO_L17P_13, BA41 IO_L15P_13, BA42 IO_L13N_13, BB34 IO_L15P_12, BB36 IO_L13P_12, BB37 IO_L11N_SRCC_12, BB38 IO_L7N_12, BB39 IO_L7P_12, BB40 VCCO_13, BB41 IO_L15N_13
part B pins: AA33 VCCO_15, AA40 IO_L3N_SM9N_15, AA41 IO_L5P_SM10P_15, AA42 IO_L7P_SM12P_15, AB32 IO_L12P_SM13P_15, AB33 IO_L12N_SM13N_15, AB34 IO_L16N_VRP_15, AB36 IO_L8N_SRCC_15, AB37 IO_L1P_15, AB38 IO_L1N_15, AB39 IO_L3P_SM9P_15, AB40 VCCO_15, AB41 IO_L5N_SM10N_15, AB42 IO_L7N_SM12N_15, AC33 IO_L18N_15, AC34 IO_L18P_15, AC35 IO_L16P_VRN_15, AC36 IO_L8P_SRCC_15, AC37 VCCO_15, AC38 IO_L4P_15, AC39 IO_L4N_VREF_15, AC40 IO_L13P_SM14P_15, AC41 IO_L11P_SRCC_15, AD32 IO_L9P_MRCC_15, AD33 IO_L2N_SM8N_15, AD34 VCCO_15, AD35 IO_L14N_VREF_15, AD36 IO_L14P_15, AD37 IO_L10N_MRCC_15, AD38 IO_L6N_SM11N_15, AD40 IO_L13N_SM14N_15, AD41 IO_L11N_SRCC_15, AD42 IO_L15P_SM15P_15, AE32 IO_L9N_MRCC_15, AE33 IO_L2P_SM8P_15, AE34 IO_L0P_15, AE35 IO_L0N_15, AE37 IO_L10P_MRCC_15, AE38 IO_L6P_SM11P_15, AE39 IO_L19N_15, AE40 IO_L19P_15, AE41 VCCO_15, AE42 IO_L15N_SM15N_15, AF32 IO_L18P_14, AF34 IO_L0N_14, AF35 IO_L16P_14, AF36 IO_L16N_14, AF37 IO_L6P_14, AF38 VCCO_14, AF39 IO_L2P_14, AF40 IO_L1P_14, AF41 IO_L17N_15, AF42 IO_L17P_15, AG33 IO_L18N_14, AG34 IO_L0P_14, AG35 VCCO_14, AG36 IO_L14P_14, AG37 IO_L6N_14, AG38 IO_L4P_14, AG39 IO_L2N_14, AG41 IO_L1N_14, AG42 IO_L3P_14, AH34 IO_L9P_MRCC_14, AH35 IO_L12N_VRP_14, AH36 IO_L14N_VREF_14, AH38 IO_L4N_VREF_14, AH39 IO_L11P_SRCC_14, AH40 IO_L5P_14, AH41 IO_L3N_14, AH42 VCCO_14, AJ35 IO_L9N_MRCC_14, AJ36 IO_L12P_VRN_14, AJ37 IO_L10P_MRCC_14, AJ38 IO_L8N_SRCC_14, AJ39 VCCO_14, AJ40 IO_L11N_SRCC_14, AJ41 IO_L5N_14, AJ42 IO_L7P_14, AK37 IO_L10N_MRCC_14, AK38 IO_L8P_SRCC_14, AK39 IO_L19P_14, AK40 IO_L17P_14, AK42 IO_L7N_14, AL39 IO_L19N_14, AL40 IO_L17N_14, AL41 IO_L15P_14, AL42 IO_L13P_14, AM40 VCCO_14, AM41 IO_L15N_14, AM42 IO_L13N_14
part C pins: AA32 IO_L12P_VRN_16, AA34 IO_L14P_16, AA35 IO_L8P_SRCC_16, AA36 IO_L4P_16, AA37 IO_L4N_VREF_16, AA39 IO_L19N_16, L39 IO_L1P_17, L40 IO_L1N_17, L41 IO_L3P_17, L42 IO_L3N_17, M36 IO_L0P_17, M37 IO_L0N_17, M38 IO_L2P_17, M39 IO_L2N_17, M40 VCCO_17, M41 IO_L7P_17, M42 IO_L7N_17, N34 IO_L4N_VREF_17, N35 IO_L4P_17, N36 IO_L6P_17, N37 VCCO_17, N38 IO_L5P_17, N39 IO_L5N_17, N40 IO_L11P_SRCC_17, N41 IO_L11N_SRCC_17, P34 VCCO_17, P35 IO_L9N_MRCC_17, P36 IO_L9P_MRCC_17, P37 IO_L6N_17, P38 IO_L8N_SRCC_17, P40 IO_L13P_17, P41 IO_L13N_17, P42 IO_L15P_17, R34 IO_L14N_VREF_17, R35 IO_L14P_17, R37 IO_L12P_VRN_17, R38 IO_L10N_MRCC_17, R39 IO_L8P_SRCC_17, R40 IO_L17P_17, R41 VCCO_17, R42 IO_L15N_17, T34 IO_L18P_17, T35 IO_L18N_17, T36 IO_L16N_17, T37 IO_L12N_VRP_17, T38 VCCO_17, T39 IO_L10P_MRCC_17, T40 IO_L17N_17, T41 IO_L19P_17, T42 IO_L19N_17, U32 IO_L16P_16, U33 IO_L16N_16, U34 IO_L10N_MRCC_16, U35 VCCO_16, U36 IO_L16P_17, U37 IO_L1P_16, U38 IO_L1N_16, U39 IO_L5P_16, U41 IO_L3N_16, U42 IO_L3P_16, V32 VCCO_16, V33 IO_L18P_16, V34 IO_L10P_MRCC_16, V35 IO_L6N_16, V36 IO_L2N_16, V38 IO_L7P_16, V39 IO_L5N_16, V40 IO_L11P_SRCC_16, V41 IO_L13P_16, V42 VCCO_16, W32 IO_L9P_MRCC_16, W33 IO_L18N_16, W35 IO_L6P_16, W36 IO_L2P_16, W37 IO_L0P_16, W38 IO_L7N_16, W39 VCCO_16, W40 IO_L11N_SRCC_16, W41 IO_L13N_16, W42 IO_L15P_16, Y32 IO_L12N_VRP_16, Y33 IO_L9N_MRCC_16, Y34 IO_L14N_VREF_16, Y35 IO_L8N_SRCC_16, Y36 VCCO_16, Y37 IO_L0N_16, Y38 IO_L19P_16, Y39 IO_L17N_16, Y40 IO_L17P_16, Y42 IO_L15N_16
part D pins: AH22 VCCO_21, AL23 VCCO_21, AL26 IO_L9N_MRCC_22, AM26 IO_L9P_MRCC_22, AM27 IO_L10N_MRCC_22, AN26 IO_L1P_22, AN27 VCCO_22, AN28 IO_L10P_MRCC_22, AP24 VCCO_21, AP27 IO_L1N_22, AP28 IO_L3N_22, AR27 IO_L11P_SRCC_22, AR28 IO_L3P_22, AR29 IO_L5N_22, AR30 IO_L7N_22, AT27 IO_L11N_SRCC_22, AT28 VCCO_22, AT29 IO_L5P_22, AT30 IO_L7P_22, AT31 IO_L13P_22, AU25 VCCO_21, AU28 IO_L17P_22, AU29 IO_L15P_22, AU31 IO_L13N_22, AV28 IO_L17N_22, AV29 IO_L15N_22, AV30 IO_L0N_22, AV31 IO_L2N_22, AW28 IO_L19P_22, AW29 VCCO_22, AW30 IO_L0P_22, AW31 IO_L2P_22, AW32 IO_L4N_VREF_22, AY26 VCCO_21, AY28 IO_L19N_22, AY29 IO_L12P_VRN_22, AY30 IO_L8N_SRCC_22, AY32 IO_L4P_22, AY33 IO_L6N_22, BA29 IO_L12N_VRP_22, BA30 IO_L8P_SRCC_22, BA31 IO_L16P_22, BA32 IO_L6P_22, BA33 VCCO_22, BB28 IO_L18N_22, BB29 IO_L18P_22, BB30 VCCO_22, BB31 IO_L16N_22, BB32 IO_L14N_VREF_22, BB33 IO_L14P_22
part E pins: AA30 IO_L9N_MRCC_24, AA31 IO_L10P_MRCC_24, AB30 VCCO_24, AB31 IO_L10N_MRCC_24, AC30 IO_L17N_VRP_24, AC31 IO_L17P_VRN_24, AD30 IO_L19N_24, AD31 IO_L19P_24, AE30 IO_L0P_GC_24, AE31 VCCO_24, AF30 IO_L0N_GC_24, AF31 IO_L2N_D14_24, AG25 VCCO_23, AG27 IO_L14N_VREF_23, AG28 IO_L14P_23, AG29 IO_L18N_24, AG31 IO_L4N_VREF_D10_24, AG32 IO_L2P_D15_24, AH24 IO_L10P_MRCC_23, AH25 IO_L10N_MRCC_23, AH26 IO_L18N_23, AH28 IO_L12P_VRN_23, AH29 IO_L18P_24, AH30 IO_L14P_FCS_B_24, AH31 IO_L4P_D11_24, AH32 VCCO_24, AH33 IO_L6N_D6_24, AJ25 IO_L9P_MRCC_23, AJ26 IO_L18P_23, AJ27 IO_L16N_23, AJ28 IO_L12N_VRP_23, AJ29 VCCO_24, AJ30 IO_L14N_VREF_FOE_B_MOSI_24, AJ31 IO_L16P_RS0_24, AJ32 IO_L8N_SRCC_24, AJ33 IO_L6P_D7_24, AK25 IO_L9N_MRCC_23, AK26 VCCO_23, AK27 IO_L16P_23, AK28 IO_L8P_SRCC_23, AK29 IO_L8N_SRCC_23, AK30 IO_L16N_CSO_B_24, AK32 IO_L12P_D3_24, AK33 IO_L8P_SRCC_24, AL27 IO_L6P_23, AL29 IO_L2P_23, AL30 IO_L2N_23, AL31 IO_L1N_23, AL32 IO_L12N_D2_FS2_24, AL33 VCCO_23, AM28 IO_L6N_23, AM29 IO_L4N_VREF_23, AM30 VCCO_23, AM31 IO_L1P_23, AM32 IO_L3N_23, AM33 IO_L3P_23, AN29 IO_L4P_23, AN30 IO_L0N_23, AN31 IO_L7N_23, AN33 IO_L5P_23, AN34 IO_L5N_23, AP30 IO_L0P_23, AP31 IO_L7P_23, AP32 IO_L13P_23, AP33 IO_L11N_SRCC_23, AR31 VCCO_23, AR32 IO_L13N_23, AR33 IO_L15P_23, AR34 IO_L11P_SRCC_23, AT32 IO_L15N_23, AU32 IO_L17N_23, AU33 IO_L17P_23, AV32 VCCO_23, AV33 IO_L19P_23, AW33 IO_L19N_23, N33 IO_L5P_D9_24, P32 IO_L7P_D5_24, P33 IO_L5N_D8_24, R30 IO_L3N_D12_24, R31 VCCO_24, R32 IO_L11P_SRCC_24, R33 IO_L7N_D4_24, T30 IO_L3P_D13_24, T31 IO_L13P_D1_FS1_24, T32 IO_L11N_SRCC_24, U31 IO_L13N_D0_FS0_24, V30 IO_L1N_GC_24, V31 IO_L15P_FWE_B_24, W29 VCCO_24, W30 IO_L1P_GC_24, W31 IO_L15N_RS1_24, Y30 IO_L9P_MRCC_24
part F pins: A37 IO_L1N_26, A39 IO_L3N_26, A40 IO_L7P_26, A41 IO_L7N_26, B37 IO_L1P_26, B38 IO_L3P_26, B39 IO_L5P_26, B40 VCCO_26, B41 IO_L11P_SRCC_26, B42 IO_L11N_SRCC_26, C37 VCCO_26, C38 IO_L6N_26, C39 IO_L5N_26, C40 IO_L13P_26, C41 IO_L13N_26, D38 IO_L6P_26, D40 IO_L17P_26, D41 IO_L15N_26, D42 IO_L15P_26, E37 IO_L4N_VREF_26, E38 IO_L8N_SRCC_26, E39 IO_L8P_SRCC_26, E40 IO_L17N_26, E41 VCCO_26, E42 IO_L19P_26, F35 IO_L10P_MRCC_26, F36 IO_L10N_MRCC_26, F37 IO_L4P_26, F38 VCCO_26, F39 IO_L12P_VRN_26, F40 IO_L16P_26, F41 IO_L16N_26, F42 IO_L19N_26, G34 IO_L9P_MRCC_26, G35 VCCO_26, G36 IO_L0N_26, G37 IO_L14P_26, G38 IO_L14N_VREF_26, G39 IO_L12N_VRP_26, G41 IO_L18P_26, G42 IO_L18N_26, H34 IO_L9N_MRCC_26, H35 IO_L2N_26, H36 IO_L0P_26, H38 IO_L6N_25, H39 IO_L6P_25, H40 IO_L12P_25, H41 IO_L12N_25, H42 VCCO_25, J35 IO_L2P_26, J36 IO_L4N_VREF_25, J37 IO_L4P_25, J38 IO_L8N_SRCC_25, J39 VCCO_25, J40 IO_L14P_25, J41 IO_L14N_VREF_25, J42 IO_L18P_GC_25, K32 IO_L0N_25, K33 IO_L0P_25, K34 IO_L2N_25, K35 IO_L2P_25, K36 VCCO_25, K37 IO_L11P_SRCC_25, K38 IO_L8P_SRCC_25, K39 IO_L16P_VRN_25, K40 IO_L16N_VRP_25, K42 IO_L18N_GC_25, L31 IO_L3P_25, L32 IO_L3N_25, L33 VCCO_25, L34 IO_L13P_25, L35 IO_L7P_25, L36 IO_L7N_25, L37 IO_L11N_SRCC_25, M30 VCCO_25, M31 IO_L17P_25, M32 IO_L15N_25, M33 IO_L15P_25, M34 IO_L13N_25, N28 IO_L1P_25, N29 IO_L5P_25, N30 IO_L5N_25, N31 IO_L17N_25, P27 IO_L9P_MRCC_25, P28 IO_L1N_25, P30 IO_L19P_GC_25, P31 IO_L19N_GC_25, R27 IO_L9N_MRCC_25, R28 IO_L10P_MRCC_25, R29 IO_L10N_MRCC_25, T28 VCCO_25
part G pins: A32 IO_L1P_27, A33 VCCO_27, A34 IO_L5P_27, A35 IO_L5N_27, A36 IO_L13P_27, B30 VCCO_28, B32 IO_L1N_27, B33 IO_L3P_27, B34 IO_L7P_27, B36 IO_L13N_27, C33 IO_L3N_27, C34 IO_L7N_27, C35 IO_L15P_27, C36 IO_L15N_27, D32 IO_L0N_27, D33 IO_L11P_SRCC_27, D34 VCCO_27, D35 IO_L4N_VREF_27, D36 IO_L19P_27, D37 IO_L19N_27, E31 VCCO_27, E32 IO_L0P_27, E33 IO_L11N_SRCC_27, E34 IO_L17P_27, E35 IO_L4P_27, F28 VCCO_28, F31 IO_L2N_27, F32 IO_L2P_27, F34 IO_L17N_27, G31 IO_L6N_27, G32 IO_L8N_SRCC_27, G33 IO_L8P_SRCC_27, H30 IO_L16P_27, H31 IO_L6P_27, H32 VCCO_27, H33 IO_L12P_VRN_27, J29 VCCO_27, J30 IO_L16N_27, J31 IO_L14N_VREF_27, J32 IO_L14P_27, J33 IO_L12N_VRP_27, K26 VCCO_28, K29 IO_L18P_27, K30 IO_L18N_27, L29 IO_L9P_MRCC_27, L30 IO_L9N_MRCC_27, M28 IO_L10P_MRCC_27, M29 IO_L10N_MRCC_27, N27 VCCO_28, P24 VCCO_28
part H pins: AJ15 IO_L10N_MRCC_33, AJ16 IO_L10P_MRCC_33, AJ17 IO_L6P_33, AJ18 IO_L18N_33, AJ19 VCCO_32, AJ20 IO_L9N_MRCC_32, AJ21 IO_L9P_MRCC_32, AK14 IO_L9N_MRCC_33, AK15 IO_L9P_MRCC_33, AK16 VCCO_33, AK17 IO_L6N_33, AK18 IO_L18P_33, AK19 IO_L10N_MRCC_32, AK20 IO_L10P_MRCC_32, AL13 VCCO_33, AL14 IO_L0N_33, AL15 IO_L0P_33, AL16 IO_L4N_VREF_33, AL17 IO_L4P_33, AL19 IO_L1P_32, AL20 IO_L5P_32, AL21 IO_L5N_32, AM14 IO_L2N_33, AM16 IO_L8N_SRCC_33, AM17 IO_L14P_33, AM18 IO_L14N_VREF_33, AM19 IO_L1N_32, AM20 VCCO_32, AM21 IO_L11P_SRCC_32, AN15 IO_L2P_33, AN16 IO_L8P_SRCC_33, AN17 VCCO_33, AN18 IO_L16P_33, AN19 IO_L16N_33, AN20 IO_L7P_32, AN21 IO_L11N_SRCC_32, AP16 IO_L12P_VRN_33, AP17 IO_L12N_VRP_33, AP18 IO_L11P_SRCC_33, AP20 IO_L7N_32, AP21 IO_L19P_32, AP22 IO_L19N_32, AR17 IO_L1P_33, AR18 IO_L1N_33, AR19 IO_L11N_SRCC_33, AR20 IO_L3N_32, AR21 VCCO_32, AR22 IO_L17N_32, AT16 IO_L3P_33, AT17 IO_L5P_33, AT18 VCCO_33, AT19 IO_L19N_33, AT20 IO_L3P_32, AT21 IO_L15N_32, AT22 IO_L17P_32, AU17 IO_L3N_33, AU18 IO_L5N_33, AU19 IO_L19P_33, AU21 IO_L15P_32, AU22 IO_L2N_32, AV18 IO_L13P_33, AV19 IO_L13N_33, AV20 IO_L13P_32, AV21 IO_L12P_VRN_32, AV22 VCCO_32, AV23 IO_L2P_32, AW18 IO_L7N_33, AW19 VCCO_33, AW20 IO_L13N_32, AW21 IO_L12N_VRP_32, AW22 IO_L16P_32, AW23 IO_L4P_32, AY18 IO_L7P_33, AY19 IO_L17N_33, AY20 IO_L8P_SRCC_32, AY22 IO_L16N_32, AY23 IO_L4N_VREF_32, AY24 IO_L0P_32, BA19 IO_L17P_33, BA20 IO_L8N_SRCC_32, BA21 IO_L14N_VREF_32, BA22 IO_L14P_32, BA23 VCCO_32, BA24 IO_L0N_32, BB18 IO_L15P_33, BB19 IO_L15N_33, BB20 VCCO_33, BB21 IO_L18N_32, BB22 IO_L18P_32, BB23 IO_L6N_32, BB24 IO_L6P_32
part I pins: A14 IO_L5N_SM2N_35, A15 IO_L5P_SM2P_35, A16 IO_L1P_35, AM12 IO_L9N_MRCC_34, AM13 IO_L9P_MRCC_34, AN13 IO_L10N_MRCC_34, AN14 IO_L10P_MRCC_34, AP11 IO_L1P_GC_34, AP12 IO_L1N_GC_34, AP13 IO_L5P_A09_D25_34, AP14 VCCO_34, AP15 IO_L17P_A19_34, AR11 VCCO_34, AR12 IO_L3P_A13_D29_34, AR13 IO_L5N_A08_D24_34, AR14 IO_L15P_A23_34, AR15 IO_L17N_A18_34, AT12 IO_L3N_A12_D28_34, AT14 IO_L15N_A22_34, AT15 IO_L19P_VRN_34, AU12 IO_L7P_A05_D21_34, AU13 IO_L7N_A04_D20_34, AU14 IO_L4N_VREF_A10_D26_34, AU15 VCCO_34, AU16 IO_L19N_VRP_34, AV12 VCCO_34, AV13 IO_L11P_SRCC_34, AV14 IO_L11N_SRCC_34, AV15 IO_L4P_A11_D27_34, AV16 IO_L8P_SRCC_34, AW12 IO_L13P_A01_D17_34, AW13 IO_L13N_A00_D16_34, AW15 IO_L6N_A06_D22_34, AW16 IO_L8N_SRCC_34, AW17 IO_L18N_A16_34, AY13 IO_L0N_GC_34, AY14 IO_L0P_GC_34, AY15 IO_L6P_A07_D23_34, AY16 VCCO_34, AY17 IO_L18P_A17_34, B14 IO_L13P_SM6P_35, B16 IO_L1N_35, BA13 VCCO_34, BA14 IO_L2N_A14_D30_34, BA15 IO_L2P_A15_D31_34, BA16 IO_L14P_A25_34, BA17 IO_L14N_VREF_A24_34, BB13 IO_L12P_A03_D19_34, BB14 IO_L12N_A02_D18_34, BB16 IO_L16P_A21_34, BB17 IO_L16N_A20_34, C13 IO_L15P_SM7P_35, C14 IO_L13N_SM6N_35, C15 IO_L7P_SM4P_35, C16 IO_L3N_SM1N_35, C17 VCCO_35, D12 IO_L15N_SM7N_35, D13 IO_L17P_35, D14 VCCO_35, D15 IO_L7N_SM4N_35, D16 IO_L3P_SM1P_35, E12 IO_L0N_35, E13 IO_L17N_35, E14 IO_L19P_GC_35, E15 IO_L11P_SRCC_35, F12 IO_L0P_35, F14 IO_L19N_GC_35, F15 IO_L11N_SRCC_35, G12 IO_L6N_SM3N_35, G13 IO_L4N_VREF_35, G14 IO_L2N_SM0N_35, G15 VCCO_35, H12 VCCO_35, H13 IO_L6P_SM3P_35, H14 IO_L4P_35, H15 IO_L2P_SM0P_35, J11 IO_L8N_SRCC_35, J12 IO_L8P_SRCC_35, J13 IO_L12P_SM5P_35, K12 IO_L16P_VRN_35, K13 IO_L12N_SM5N_35, K14 IO_L14P_35, L11 IO_L16N_VRP_35, L12 IO_L18P_GC_35, L13 VCCO_35, L14 IO_L14N_VREF_35, M12 IO_L18N_GC_35, M13 IO_L10P_MRCC_35, M14 IO_L9P_MRCC_35, N13 IO_L10N_MRCC_35, N14 IO_L9N_MRCC_35
part J pins: A17 IO_L17P_36, A19 IO_L15N_36, A20 IO_L15N_37, A21 IO_L13N_37, A22 IO_L13P_37, A23 VCCO_37, A24 IO_L1N_37, B17 IO_L17N_36, B18 IO_L15P_36, B19 IO_L7N_36, B20 VCCO_36, B21 IO_L15P_37, B22 IO_L5N_37, B23 IO_L5P_37, B24 IO_L1P_37, C18 IO_L13N_36, C19 IO_L7P_36, C20 IO_L19P_37, C21 IO_L17P_37, C23 IO_L3N_37, C24 IO_L3P_37, D17 IO_L19P_36, D18 IO_L13P_36, D20 IO_L19N_37, D21 IO_L17N_37, D22 IO_L11N_SRCC_37, D23 IO_L11P_SRCC_37, D24 VCCO_37, E17 IO_L19N_36, E18 IO_L5N_36, E19 IO_L5P_36, E20 IO_L12P_VRN_37, E21 VCCO_37, E22 IO_L4N_VREF_37, E23 IO_L7N_37, E24 IO_L7P_37, F16 IO_L2N_36, F17 IO_L11P_SRCC_36, F18 VCCO_36, F19 IO_L3N_36, F20 IO_L12N_VRP_37, F21 IO_L4P_37, F22 IO_L2N_37, G16 IO_L2P_36, G17 IO_L11N_SRCC_36, G18 IO_L1N_36, G19 IO_L3P_36, G21 IO_L8N_SRCC_37, G22 IO_L2P_37, G23 IO_L0P_37, H16 IO_L4N_VREF_36, H18 IO_L1P_36, H19 IO_L14N_VREF_37, H20 IO_L8P_SRCC_37, H21 IO_L6P_37, H22 VCCO_37, H23 IO_L0N_37, J15 IO_L14P_36, J16 IO_L4P_36, J17 IO_L6N_36, J18 IO_L0N_36, J19 VCCO_37, J20 IO_L14P_37, J21 IO_L6N_37, J22 IO_L10P_MRCC_37, K15 IO_L14N_VREF_36, K16 VCCO_36, K17 IO_L6P_36, K18 IO_L0P_36, K19 IO_L18P_37, K20 IO_L16P_37, K22 IO_L10N_MRCC_37, L15 IO_L16N_36, L16 IO_L16P_36, L17 IO_L12P_VRN_36, L19 IO_L18N_37, L20 IO_L16N_37, L21 IO_L9N_MRCC_37, L22 IO_L9P_MRCC_37, M16 IO_L18P_36, M17 IO_L12N_VRP_36, M18 IO_L8P_SRCC_36, N15 IO_L18N_36, N16 IO_L10P_MRCC_36, N17 VCCO_36, N18 IO_L8N_SRCC_36, P14 VCCO_36, P16 IO_L10N_MRCC_36, P17 IO_L9N_MRCC_36, P18 IO_L9P_MRCC_36
part K pins: C27 VCCO_38, G25 VCCO_38, L23 VCCO_38, M20 VCCO_38, R21 VCCO_38
part L pins: AD3 MGTRXP3_113, AD4 MGTRXN3_113, AD7 MGTREFCLK1N_113, AD8 MGTREFCLK1P_113, AE5 MGTRXP2_113, AE6 MGTRXN2_113, AF3 MGTRXP1_113, AF4 MGTRXN1_113, AF7 MGTREFCLK0N_113, AF8 MGTREFCLK0P_113, AG1 MGTTXP3_113, AG2 MGTTXN3_113, AG5 MGTRXP0_113, AG6 MGTRXN0_113, AH3 MGTTXP2_113, AH4 MGTTXN2_113, AH7 MGTREFCLK1N_112, AH8 MGTREFCLK1P_112, AJ1 MGTTXP1_113, AJ2 MGTTXN1_113, AJ5 MGTRXP3_112, AJ6 MGTRXN3_112, AK3 MGTTXP0_113, AK4 MGTTXN0_113, AK7 MGTREFCLK0N_112, AK8 MGTREFCLK0P_112, AL1 MGTTXP3_112, AL2 MGTTXN3_112, AL5 MGTRXP2_112, AL6 MGTRXN2_112, AM3 MGTTXP2_112, AM4 MGTTXN2_112, AM7 MGTRXP1_112, AM8 MGTRXN1_112, AN1 MGTTXP1_112, AN2 MGTTXN1_112, AN5 MGTRXP0_112, AN6 MGTRXN0_112, AP3 MGTTXP0_112, AP4 MGTTXN0_112
part M pins: AA1 MGTTXP2_114, AA2 MGTTXN2_114, AA5 MGTRXP2_114, AA6 MGTRXN2_114, AB3 MGTRXP1_114, AB4 MGTRXN1_114, AB7 MGTREFCLK0N_114, AB8 MGTREFCLK0P_114, AC1 MGTTXP1_114, AC2 MGTTXN1_114, AC5 MGTRXP0_114, AC6 MGTRXN0_114, AE1 MGTTXP0_114, AE2 MGTTXN0_114, P3 MGTTXP3_115, P4 MGTTXN3_115, R1 MGTTXP2_115, R2 MGTTXN2_115, R5 MGTRXP3_115, R6 MGTRXN3_115, T3 MGTTXP1_115, T4 MGTTXN1_115, T7 MGTREFCLK1N_115, T8 MGTREFCLK1P_115, U1 MGTTXP0_115, U2 MGTTXN0_115, U5 MGTRXP2_115, U6 MGTRXN2_115, V3 MGTRXP1_115, V4 MGTRXN1_115, V7 MGTREFCLK0N_115, V8 MGTREFCLK0P_115, W1 MGTTXP3_114, W2 MGTTXN3_114, W5 MGTRXP0_115, W6 MGTRXN0_115, Y3 MGTRXP3_114, Y4 MGTRXN3_114, Y7 MGTREFCLK1N_114, Y8 MGTREFCLK1P_114
part N pins: E5 MGTRXP3_117, E6 MGTRXN3_117, E9 MGTREFCLK1N_117, E10 MGTREFCLK1P_117, F3 MGTTXP3_117, F4 MGTTXN3_117, F7 MGTRXP2_117, F8 MGTRXN2_117, G1 MGTTXP2_117, G2 MGTTXN2_117, G5 MGTRXP1_117, G6 MGTRXN1_117, G9 MGTREFCLK0N_117, G10 MGTREFCLK0P_117, H3 MGTTXP1_117, H4 MGTTXN1_117, H7 MGTRXP0_117, H8 MGTRXN0_117, J1 MGTTXP0_117, J2 MGTTXN0_117, J5 MGTRXP3_116, J6 MGTRXN3_116, K3 MGTTXP3_116, K4 MGTTXN3_116, K7 MGTREFCLK1N_116, K8 MGTREFCLK1P_116, L1 MGTTXP2_116, L2 MGTTXN2_116, L5 MGTRXP2_116, L6 MGTRXN2_116, M3 MGTTXP1_116, M4 MGTTXN1_116, M7 MGTREFCLK0N_116, M8 MGTREFCLK0P_116, N1 MGTTXP0_116, N2 MGTTXN0_116, N5 MGTRXP1_116, N6 MGTRXN1_116, P7 MGTRXP0_116, P8 MGTRXN0_116
part O pins: A12 MGTAVTTRCAL_115, AA4 MGTAVTT_S, AA8 MGTAVCC_N, AC4 MGTAVTT_S, AC8 MGTAVCC_S, AE4 MGTAVTT_S, AE8 MGTAVCC_S, AJ4 MGTAVTT_S, AJ8 MGTAVCC_S, AL4 MGTAVTT_S, AL8 MGTAVCC_S, AM6 MGTAVTT_S, AN4 MGTAVTT_S, AN8 MGTAVCC_S, AP6 MGTAVTT_S, AR4 MGTAVTT_S, AR8 MGTAVCC_S, AU4 MGTAVTT_S, AU8 MGTAVCC_S, AV6 MGTAVTT_S, AW4 MGTAVTT_S, AW8 MGTAVCC_S, AY6 MGTAVTT_S, B6 MGTAVTT_N, B11 MGTRREF_115, BA4 MGTAVTT_S, BA8 MGTAVCC_S, C4 MGTAVTT_N, C8 MGTAVCC_N, D6 MGTAVTT_N, E4 MGTAVTT_N, E8 MGTAVCC_N, F6 MGTAVTT_N, G4 MGTAVTT_N, G8 MGTAVCC_N, H6 MGTAVTT_N, J4 MGTAVTT_N, J8 MGTAVCC_N, L4 MGTAVTT_N, L8 MGTAVCC_N, N4 MGTAVTT_N, N8 MGTAVCC_N, P6 MGTAVTT_N, R4 MGTAVTT_N, R8 MGTAVCC_N, W4 MGTAVTT_N, W8 MGTAVCC_N
part P pins: AA21 VREFN_0, AA22 VP_0, AB21 VN_0, AB22 VREFP_0, AC21 DXN_0, AC22 DXP_0, AK10 DOUT_BUSY_0, AL10 M2_0, AL11 M0_0, AM11 M1_0, AN10 TCK_0, AN11 TMS_0, AP10 TDI_0, AR10 TDO_0, J10 RDWR_B_0, K10 CCLK_0, L10 DIN_0, M10 VCCO_0, M11 PROGRAM_B_0, N10 DONE_0, N11 INIT_B_0, P10 HSWAPEN_0, R11 VCCO_0, T10 CSI_B_0
part Q pins: A2 GND, A3 GND, A4 GND, A7 GND, A8 GND, A11 GND, A13 GND, A18 GND, A28 GND, A38 GND, AA10 VCCAUX, AA12 VCCINT, AA14 VCCINT, AA16 VCCINT, AA18 VCCINT, AA20 VCCINT, AA24 VCCINT, AA26 VCCINT, AA28 VCCAUX, AB11 VCCAUX, AB13 VCCINT, AB15 VCCINT, AB17 VCCINT, AB19 VCCINT, AB23 VCCINT, AB25 VCCINT, AB27 VCCINT, AB29 VCCAUX, AC10 VCCAUX, AC12 VCCINT, AC14 VCCINT, AC16 VCCINT, AC18 VCCINT, AC20 VCCINT, AC24 VCCINT, AC26 VCCINT, AC28 VCCAUX, AD11 VCCAUX, AD13 VCCINT, AD15 VCCINT, AD17 VCCINT, AD19 VCCINT, AD21 VCCINT, AD23 VCCINT, AD25 VCCINT, AD27 VCCINT, AD29 VCCAUX, AE10 VCCAUX, AE12 VCCINT, AE14 VCCINT, AE16 VCCINT, AE18 VCCINT, AE20 VCCINT, AE22 VCCINT, AE24 VCCINT, AE26 VCCINT, AE28 VCCAUX, AF13 VCCINT, AF15 VCCINT, AF17 VCCINT, AF19 VCCINT, AF21 VCCINT, AF23 VCCINT, AF25 VCCINT, AF27 VCCAUX, AF29 VCCAUX, AG12 VCCINT, AG14 VCCINT, AG16 VCCINT, AG18 VCCINT, AG20 VCCINT, AG22 VCCINT, AG24 VCCINT, AG26 VCCINT, AH10 VFS_0, AH13 VCCINT, AH15 VCCINT, AH19 VCCINT, AH21 VCCINT, AH23 VCCINT, B1 GND, B2 GND, B5 GND, B9 GND, B10 GND, B12 GND, B13 GND, B15 GND, B25 GND, B35 GND, C3 GND, C7 GND, C11 GND, C12 GND, C22 GND, C32 GND, C42 GND, D1 GND, D2 GND, D5 GND, D9 GND, D10 GND, D11 GND, D19 GND, D29 GND, D39 GND, E3 GND, E7 GND, E11 GND, E16 GND, E26 GND, E36 GND, F1 GND, F2 GND, F5 GND, F9 GND, F10 GND, F11 GND, F13 GND, F23 GND, F33 GND, G3 GND, G7 GND, G11 GND, G20 GND, G30 GND, G40 GND, H1 GND, H2 GND, H5 GND, H9 GND, H10 GND, H11 GND, H17 GND, H27 GND, H37 GND, J3 GND, J7 GND, J9 GND, J14 GND, J24 GND, J34 GND, K1 GND, K2 GND, K5 GND, K6 GND, K9 GND, K11 GND, K21 GND, K31 GND, K41 GND, L3 GND, L7 GND, L9 GND, L18 GND, L28 GND, L38 GND, M1 GND, M2 GND, M5 GND, M6 GND, M9 GND, M15 GND, M25 GND, M35 GND, N3 GND, N7 GND, N9 GND, N12 GND, N22 GND, P13 VCCINT, P15 VCCINT, R10 VBATT_0, R12 VCCINT, R14 VCCINT, R18 VCCINT, R20 VCCINT, R22 VCCINT, R24 VCCINT, T13 VCCINT, T15 VCCINT, T17 VCCINT, T19 VCCINT, T21 VCCINT, T23 VCCINT, T25 VCCINT, T27 VCCINT, T29 VCCAUX, U12 VCCINT, U14 VCCINT, U16 VCCINT, U18 VCCINT, U20 VCCINT, U22 VCCINT, U24 VCCINT, U26 VCCINT, U28 VCCAUX, V11 VCCAUX, V13 VCCINT, V15 VCCINT, V17 VCCINT, V19 VCCINT, V21 VCCINT, V23 VCCINT, V25 VCCINT, V27 VCCINT, V29 VCCAUX, W10 VCCAUX, W12 VCCINT, W14 VCCINT, W16 VCCINT, W18 VCCINT, W20 VCCINT, W22 VCCINT, W24 VCCINT, W26 VCCINT, W28 VCCAUX, Y11 VCCAUX, Y13 VCCINT, Y15 VCCINT, Y17 VCCINT, Y19 VCCINT, Y21 AVSS_0, Y22 AVDD_0, Y23 VCCINT, Y25 VCCINT, Y27 VCCINT, Y29 VCCAUX
part R pins: AA3 GND, AA7 GND, AA9 GND, AA11 GND, AA13 GND, AA15 GND, AA17 GND, AA19 GND, AA23 GND, AA25 GND, AA27 GND, AA29 GND, AA38 GND, AB1 GND, AB2 GND, AB5 GND, AB6 GND, AB9 GND, AB10 GND, AB12 GND, AB14 GND, AB16 GND, AB18 GND, AB20 GND, AB24 GND, AB26 GND, AB28 GND, AB35 GND, AC3 GND, AC7 GND, AC9 GND, AC11 GND, AC13 GND, AC15 GND, AC17 GND, AC19 GND, AC23 GND, AC25 GND, AC27 GND, AC29 GND, AC32 GND, AC42 GND, AD1 GND, AD2 GND, AD5 GND, AD6 GND, AD9 GND, AD10 GND, AD12 GND, AD14 GND, AD16 GND, AD18 GND, AD20 GND, AD22 GND, AD24 GND, AD26 GND, AD28 GND, AD39 GND, AE3 GND, AE7 GND, AE9 GND, AE11 GND, AE13 GND, AE15 GND, AE17 GND, AE19 GND, AE21 GND, AE23 GND, AE25 GND, AE27 GND, AE29 GND, AE36 GND, AF1 GND, AF2 GND, AF5 GND, AF6 GND, AF9 GND, AF10 GND, AF11 GND, AF12 GND, AF14 GND, AF16 GND, AF18 GND, AF20 GND, AF22 GND, AF24 GND, AF26 GND, AF28 GND, AF33 GND, AG3 GND, AG4 GND, AG7 GND, AG8 GND, AG9 GND, AG10 GND, AG11 GND, AG13 GND, AG15 GND, AG17 GND, AG19 GND, AG21 GND, AG23 GND, AG30 GND, AG40 GND, AH1 GND, AH2 GND, AH5 GND, AH6 GND, AH9 GND, AH11 GND, AH12 GND, AH14 GND, AH16 GND, AH17 GND, AH18 GND, AH20 GND, AH27 GND, AH37 GND, AJ3 GND, AJ7 GND, AJ9 GND, AJ10 GND, AJ11 GND, AJ12 GND, AJ13 GND, AJ14 GND, AJ24 GND, AJ34 GND, AK1 GND, AK2 GND, AK5 GND, AK6 GND, AK9 GND, AK11 GND, AK12 GND, AK13 GND, AK21 GND, AK31 GND, AK41 GND, AL3 GND, AL7 GND, AL9 GND, AL12 GND, AL18 GND, AL28 GND, AL38 GND, AM1 GND, AM2 GND, AM5 GND, AM9 GND, AM10 GND, AM15 GND, AM25 GND, AM35 GND, AN3 GND, AN7 GND, AN9 GND, AN12 GND, AN22 GND, AN32 GND, AN42 GND, AP1 GND, AP2 GND, AP5 GND, AP9 GND, AP19 GND, AP29 GND, AP39 GND, AR3 GND, AR7 GND, AR9 GND, AR16 GND, AR26 GND, AR36 GND, AT1 GND, AT2 GND, AT5 GND, AT6 GND, AT9 GND, AT10 GND, AT11 GND, AT13 GND, AT23 GND, AT33 GND, AU3 GND, AU7 GND, AU11 GND, AU20 GND, AU30 GND, AU40 GND, AV1 GND, AV2 GND, AV5 GND, AV9 GND, AV10 GND, AV11 GND, AV17 GND, AV27 GND, AV37 GND, AW3 GND, AW7 GND, AW11 GND, AW14 GND, N32 GND, N42 GND, P1 GND, P2 GND, P5 GND, P9 GND, P11 GND, P12 GND, P19 GND, P29 GND, P39 GND, R3 GND, R7 GND, R9 GND, R13 GND, R15 GND, R16 GND, R17 GND, R19 GND, R26 GND, R36 GND, T1 GND, T2 GND, T5 GND, T6 GND, T9 GND, T11 GND, T12 GND, T14 GND, T16 GND, T18 GND, T20 GND, T22 GND, T24 GND, T26 GND, T33 GND, U3 GND, U4 GND, U7 GND, U8 GND, U9 GND, U10 GND, U11 GND, U13 GND, U15 GND, U17 GND, U19 GND, U21 GND, U23 GND, U25 GND, U27 GND, U29 GND, U30 GND, U40 GND, V1 GND, V2 GND, V5 GND, V6 GND, V9 GND, V10 GND, V12 GND, V14 GND, V16 GND, V18 GND, V20 GND, V22 GND, V24 GND, V26 GND, V28 GND, V37 GND, W3 GND, W7 GND, W9 GND, W11 GND, W13 GND, W15 GND, W17 GND, W19 GND, W21 GND, W23 GND, W25 GND, W27 GND, W34 GND, Y1 GND, Y2 GND, Y5 GND, Y6 GND, Y9 GND, Y10 GND, Y12 GND, Y14 GND, Y16 GND, Y18 GND, Y20 GND, Y24 GND, Y26 GND, Y28 GND, Y31 GND, Y41 GND
part S pins: AW24 GND, AW34 GND, AY1 GND, AY2 GND, AY5 GND, AY9 GND, AY10 GND, AY11 GND, AY12 GND, AY21 GND, AY31 GND, AY41 GND, BA3 GND, BA7 GND, BA11 GND, BA12 GND, BA18 GND, BA28 GND, BA38 GND, BB2 GND, BB5 GND, BB6 GND, BB9 GND, BB10 GND, BB11 GND, BB12 GND, BB15 GND, BB25 GND, BB35 GND

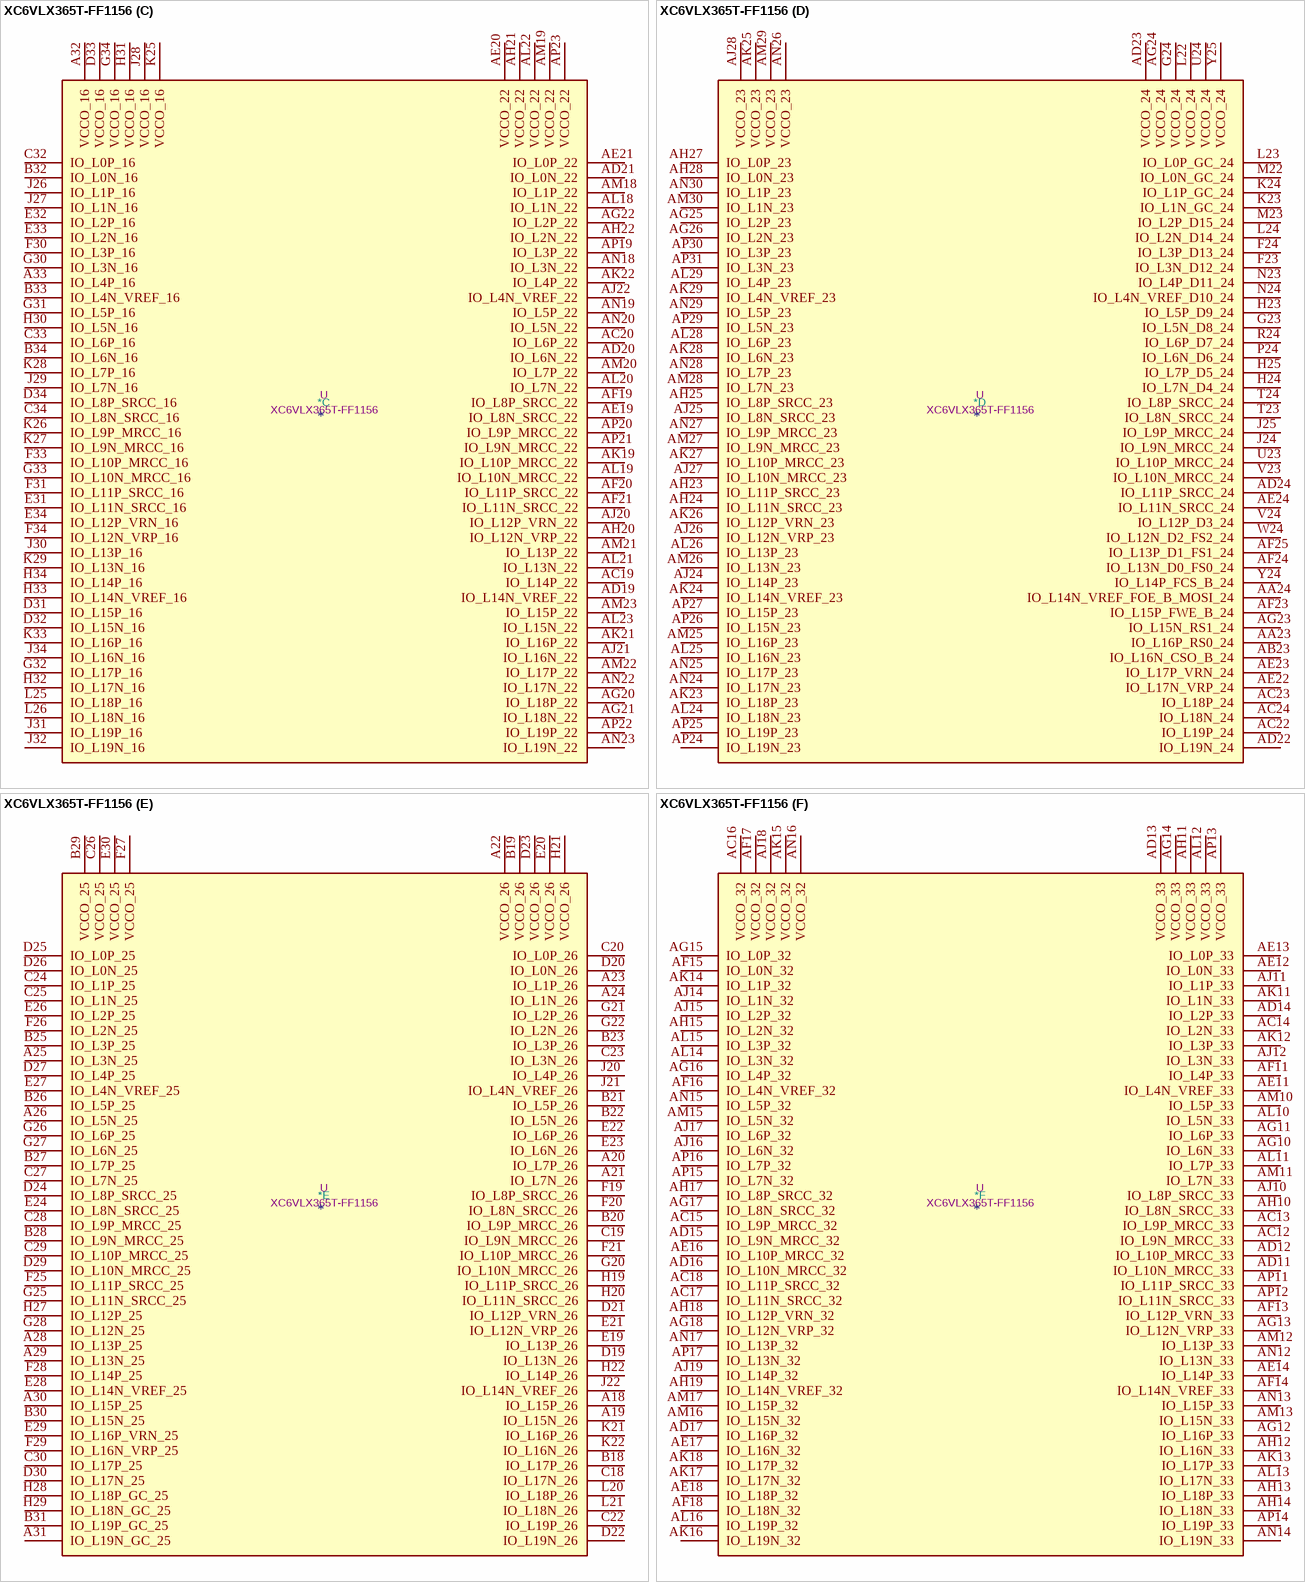
[diagram p64: symbol XC6VLX365T-FF1156]

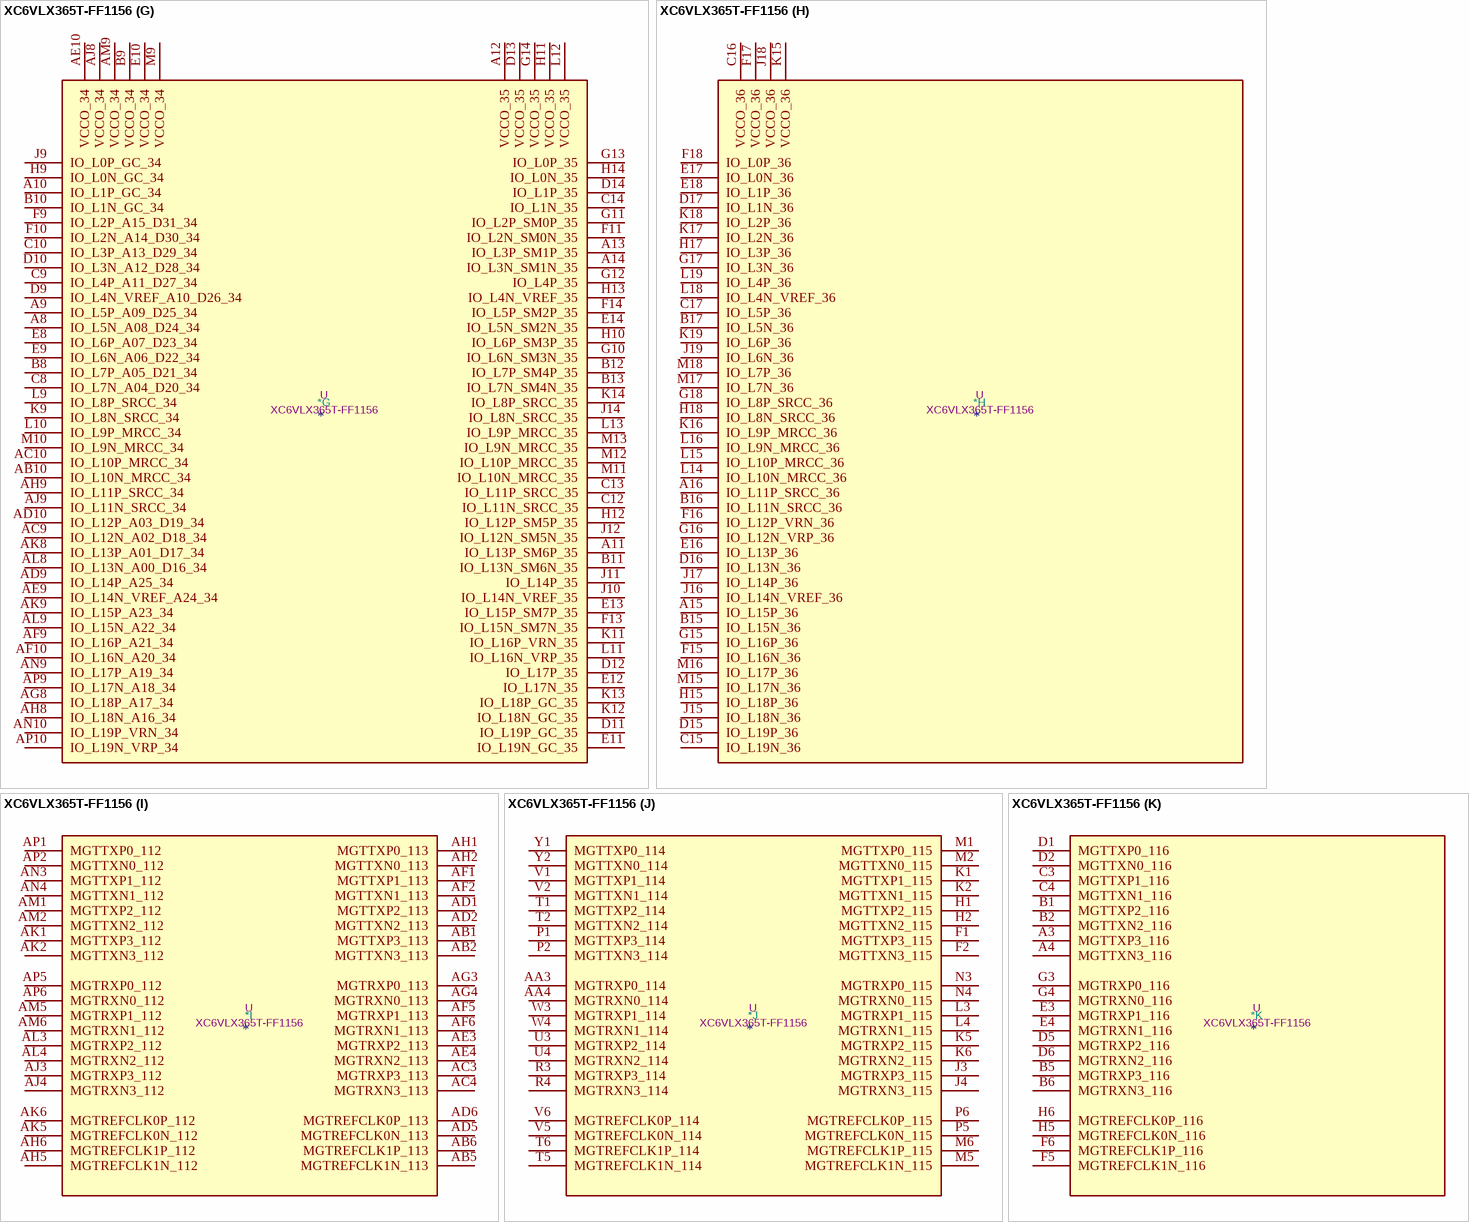
[diagram p65: symbol XC6VLX365T-FF1156]

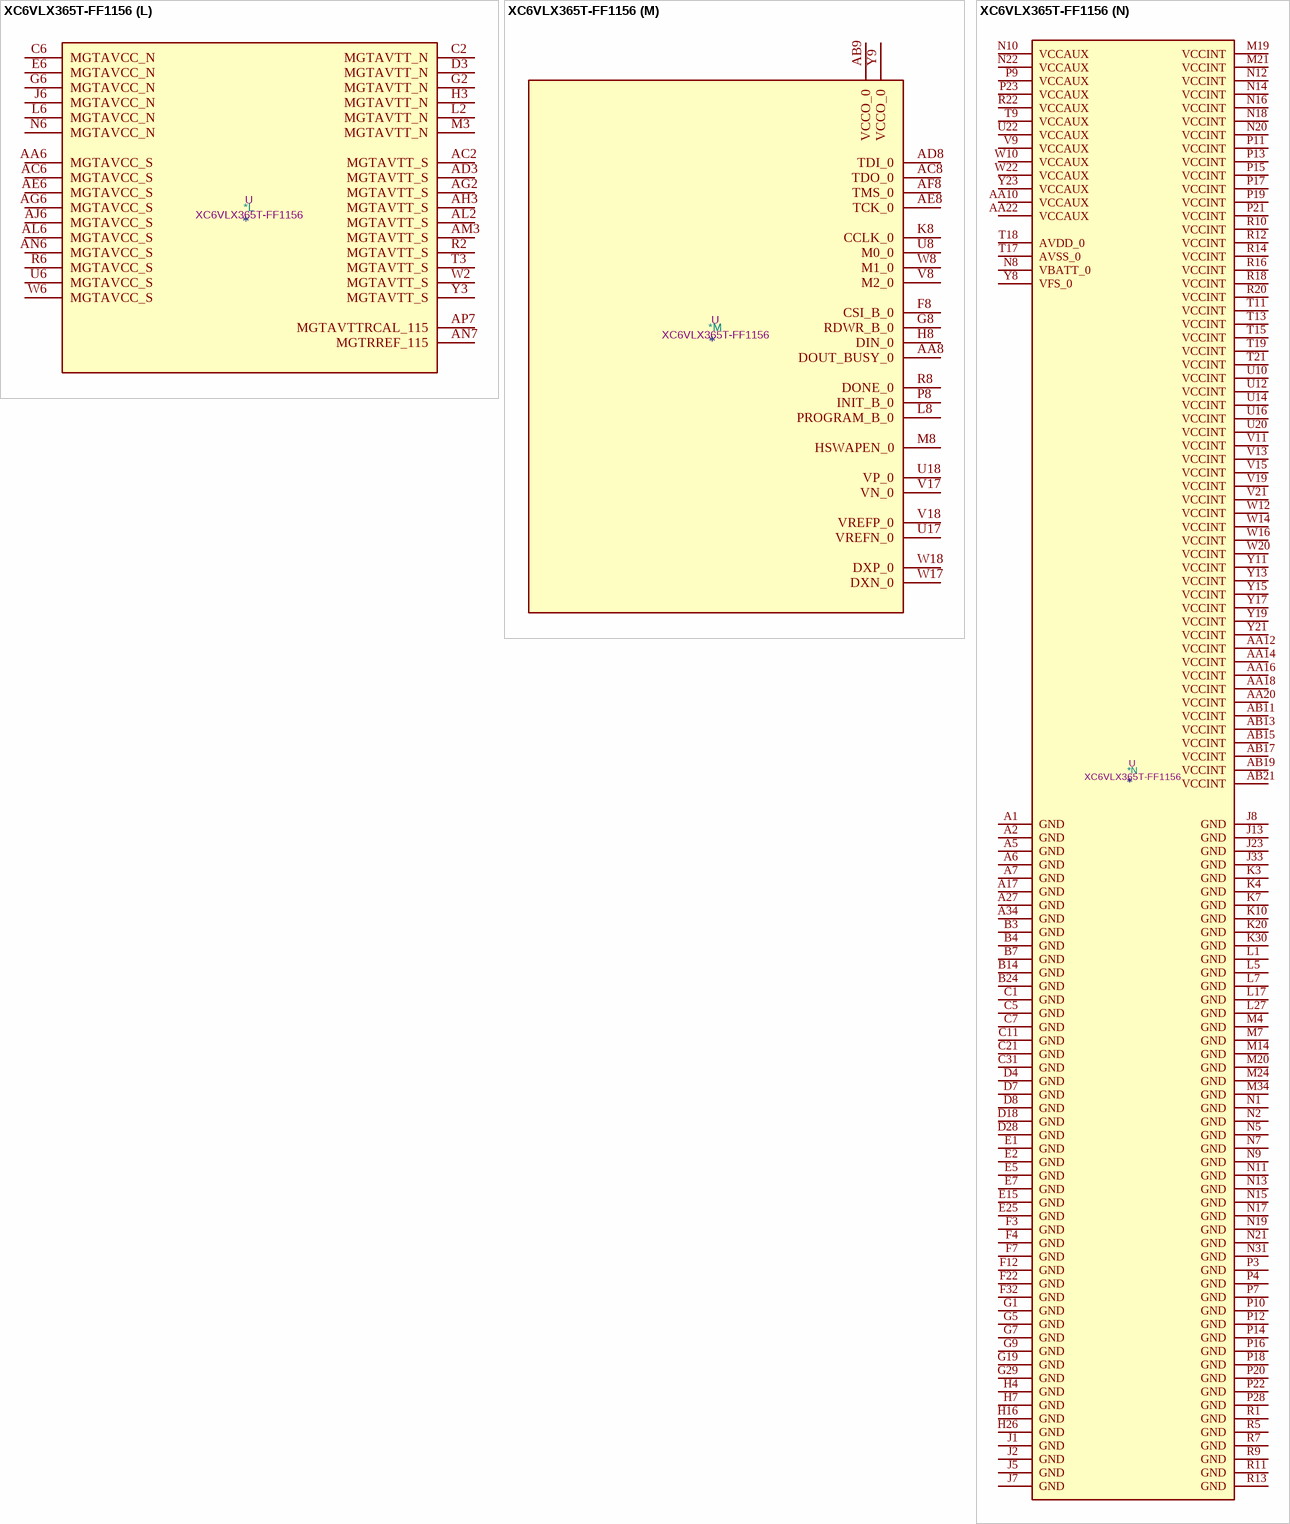
[diagram p66: symbol XC6VLX365T-FF1156]

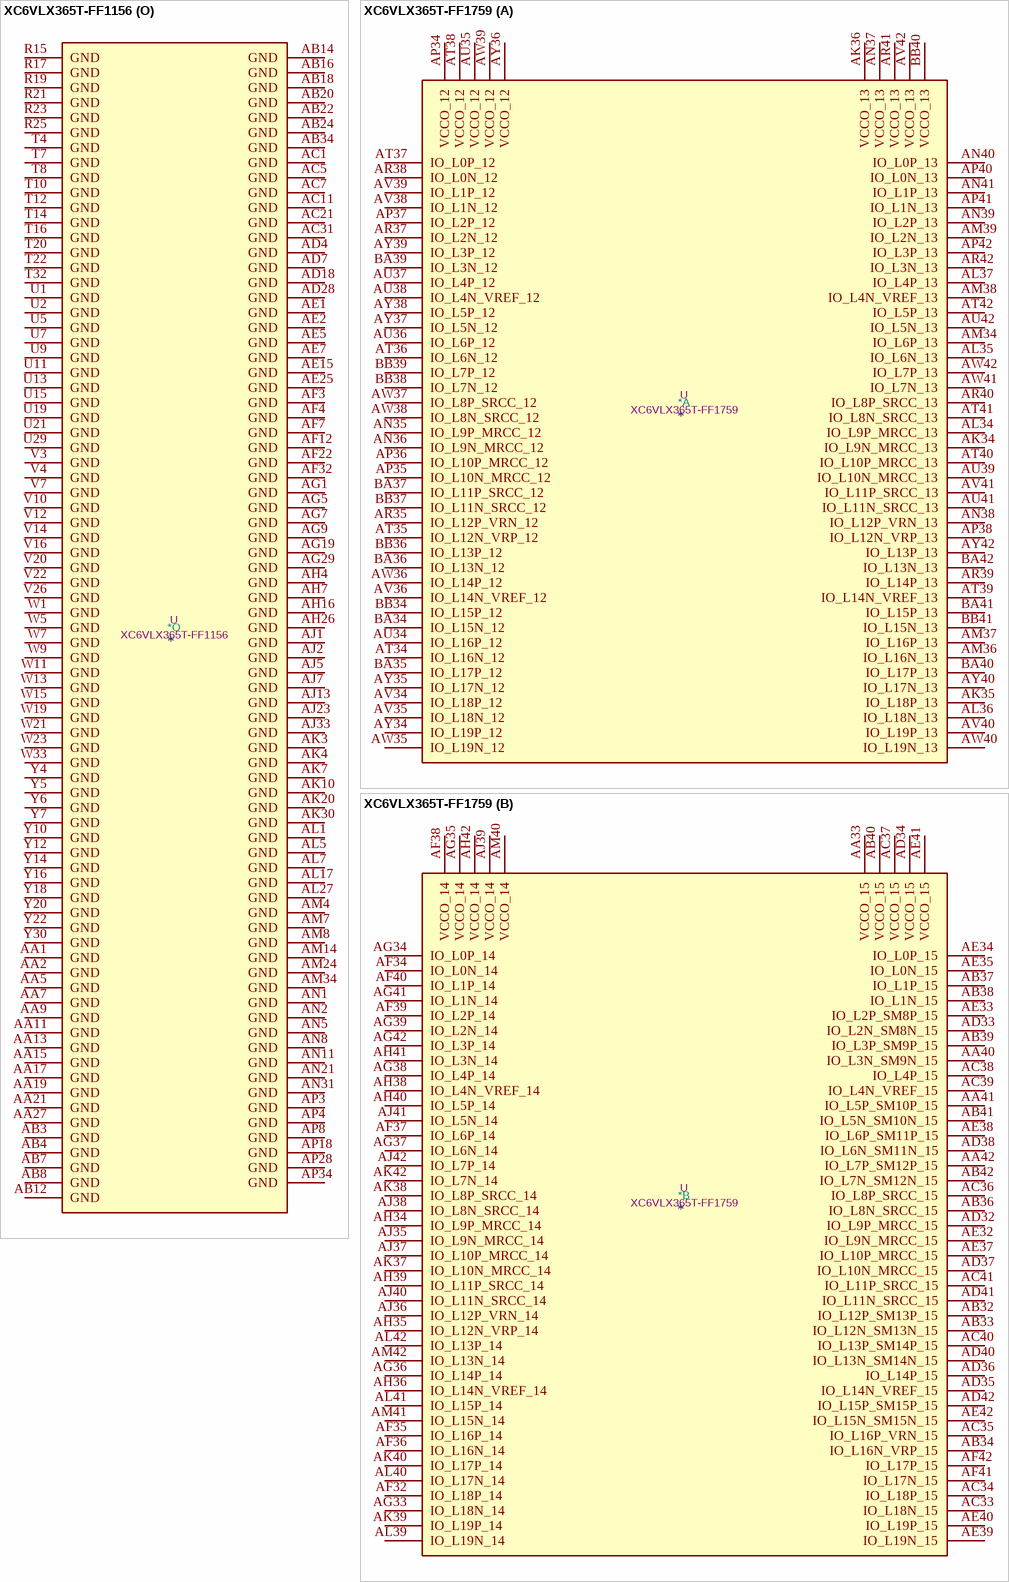
[diagram p67: symbols XC6VLX365T-FF1156 to XC6VLX365T-FF1759]